# Altium schematic symbol library MCU - ARM.SchLib: 124 symbols (part 5 of 7)
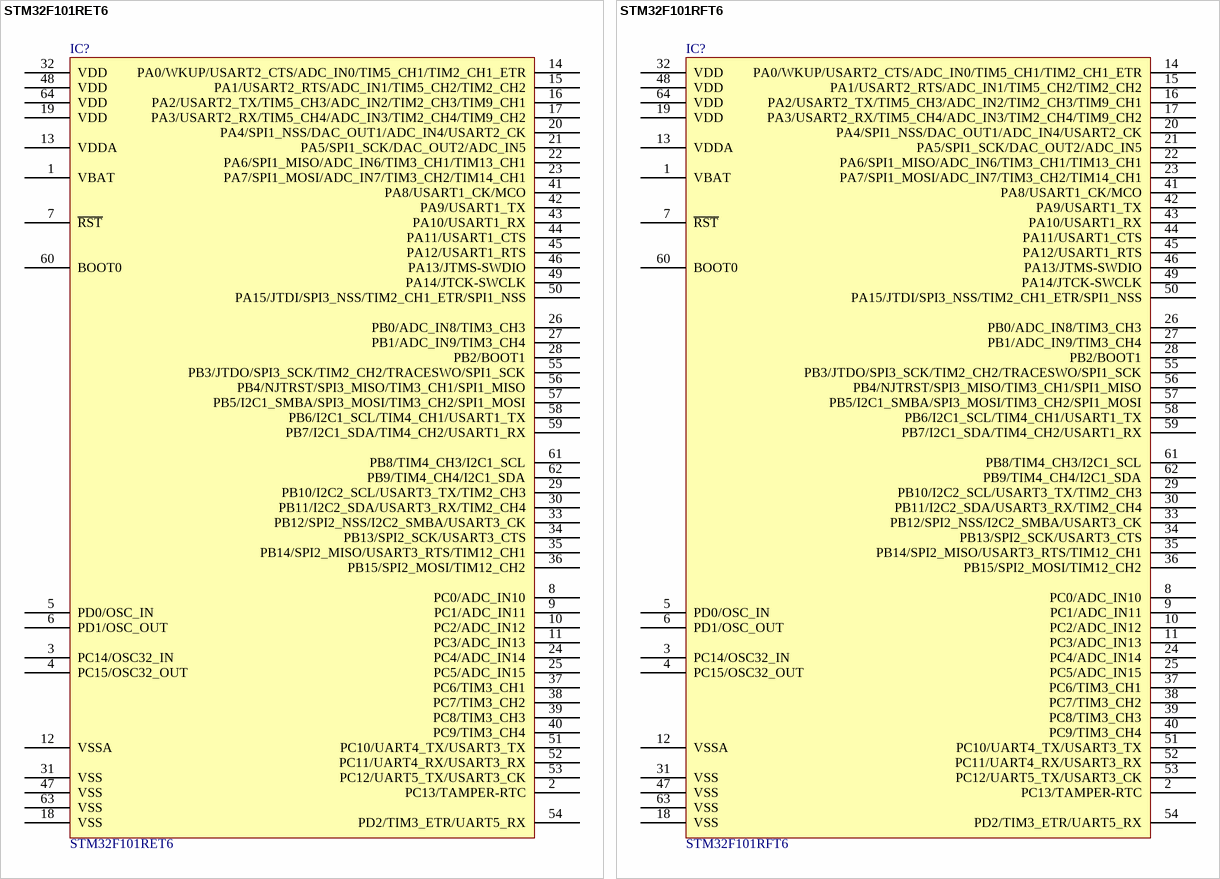
[diagram p49: symbols STM32F101RET6 to STM32F101RFT6]

## STM32F101RFT6
designator IC?
IC MCU 32BIT 768KB FLASH 64LQFP; Manufacturer: STMicroelectronics; Core Processor: ARM Cortex-M3; Core Size: 32-Bit; Speed: 36MHz; Connectivity: IC, IrDA, LIN, SPI, UART/USART; Peripherals: DMA, PDR, POR, PVD, PWM, Temp Sensor, WDT; Number Of IO: 51; Program Memory Size: 768KB (768K x 8); Ram Size: 80K x 8; Voltage: 2 V ~ 3.6 V; Data Converters: A/D 16x12b, D/A 2x12b; Oscillator Type: Internal; Part Number: STM32F101RFT6; PartId: 21174; Supplier 1: Digi-Key; Supplier Part Number 1: 497-11111-ND; ComponentLink1Description: Datasheet; ComponentLink1URL: http://www.st.com/content/ccc/resource/technical/document/datasheet/63/21/39/c6/6c/ee/48/09/CD00253739.pdf/files/CD00253739.pdf/jcr:content/translations/en.CD00253739.pdf; ComponentLink2Description: Digi-Key Listing; ComponentLink2URL: https://www.digikey.com/product-detail/en/stmicroelectronics/STM32F101RFT6/497-11111-ND/2618623; Price: 10.06; Device Package: 64-LQFP; Series: STM32 F1; Program Memory Type: FLASH
footprint ST LQFP-64 10x10mm
pins: 1 VBAT, 2 PC13/TAMPER-RTC, 3 PC14/OSC32_IN "PC14-OSC32_IN/PC14/OSC32_IN", 4 PC15/OSC32_OUT "PC15-OSC32_OUT/PC15/OSC32_OUT", 5 PD0/OSC_IN, 6 PD1/OSC_OUT, 7 ~{RST} "NRST", 8 PC0/ADC_IN10, 9 PC1/ADC_IN11, 10 PC2/ADC_IN12, 11 PC3/ADC_IN13, 12 VSSA, 13 VDDA, 14 PA0/WKUP/USART2_CTS/ADC_IN0/TIM5_CH1/TIM2_CH1_ETR, 15 PA1/USART2_RTS/ADC_IN1/TIM5_CH2/TIM2_CH2, 16 PA2/USART2_TX/TIM5_CH3/ADC_IN2/TIM2_CH3/TIM9_CH1, 17 PA3/USART2_RX/TIM5_CH4/ADC_IN3/TIM2_CH4/TIM9_CH2, 18 VSS, 19 VDD, 20 PA4/SPI1_NSS/DAC_OUT1/ADC_IN4/USART2_CK, 21 PA5/SPI1_SCK/DAC_OUT2/ADC_IN5, 22 PA6/SPI1_MISO/ADC_IN6/TIM3_CH1/TIM13_CH1, 23 PA7/SPI1_MOSI/ADC_IN7/TIM3_CH2/TIM14_CH1, 24 PC4/ADC_IN14, 25 PC5/ADC_IN15, 26 PB0/ADC_IN8/TIM3_CH3, 27 PB1/ADC_IN9/TIM3_CH4, 28 PB2/BOOT1, 29 PB10/I2C2_SCL/USART3_TX/TIM2_CH3, 30 PB11/I2C2_SDA/USART3_RX/TIM2_CH4, 31 VSS, 32 VDD, 33 PB12/SPI2_NSS/I2C2_SMBA/USART3_CK, 34 PB13/SPI2_SCK/USART3_CTS, 35 PB14/SPI2_MISO/USART3_RTS/TIM12_CH1, 36 PB15/SPI2_MOSI/TIM12_CH2, 37 PC6/TIM3_CH1, 38 PC7/TIM3_CH2, 39 PC8/TIM3_CH3, 40 PC9/TIM3_CH4, 41 PA8/USART1_CK/MCO, 42 PA9/USART1_TX, 43 PA10/USART1_RX, 44 PA11/USART1_CTS, 45 PA12/USART1_RTS, 46 PA13/JTMS-SWDIO, 47 VSS, 48 VDD, 49 PA14/JTCK-SWCLK, 50 PA15/JTDI/SPI3_NSS/TIM2_CH1_ETR/SPI1_NSS, 51 PC10/UART4_TX/USART3_TX, 52 PC11/UART4_RX/USART3_RX, 53 PC12/UART5_TX/USART3_CK, 54 PD2/TIM3_ETR/UART5_RX, 55 PB3/JTDO/SPI3_SCK/TIM2_CH2/TRACESWO/SPI1_SCK, 56 PB4/NJTRST/SPI3_MISO/TIM3_CH1/SPI1_MISO, 57 PB5/I2C1_SMBA/SPI3_MOSI/TIM3_CH2/SPI1_MOSI, 58 PB6/I2C1_SCL/TIM4_CH1/USART1_TX, 59 PB7/I2C1_SDA/TIM4_CH2/USART1_RX, 60 BOOT0, 61 PB8/TIM4_CH3/I2C1_SCL, 62 PB9/TIM4_CH4/I2C1_SDA, 63 VSS, 64 VDD

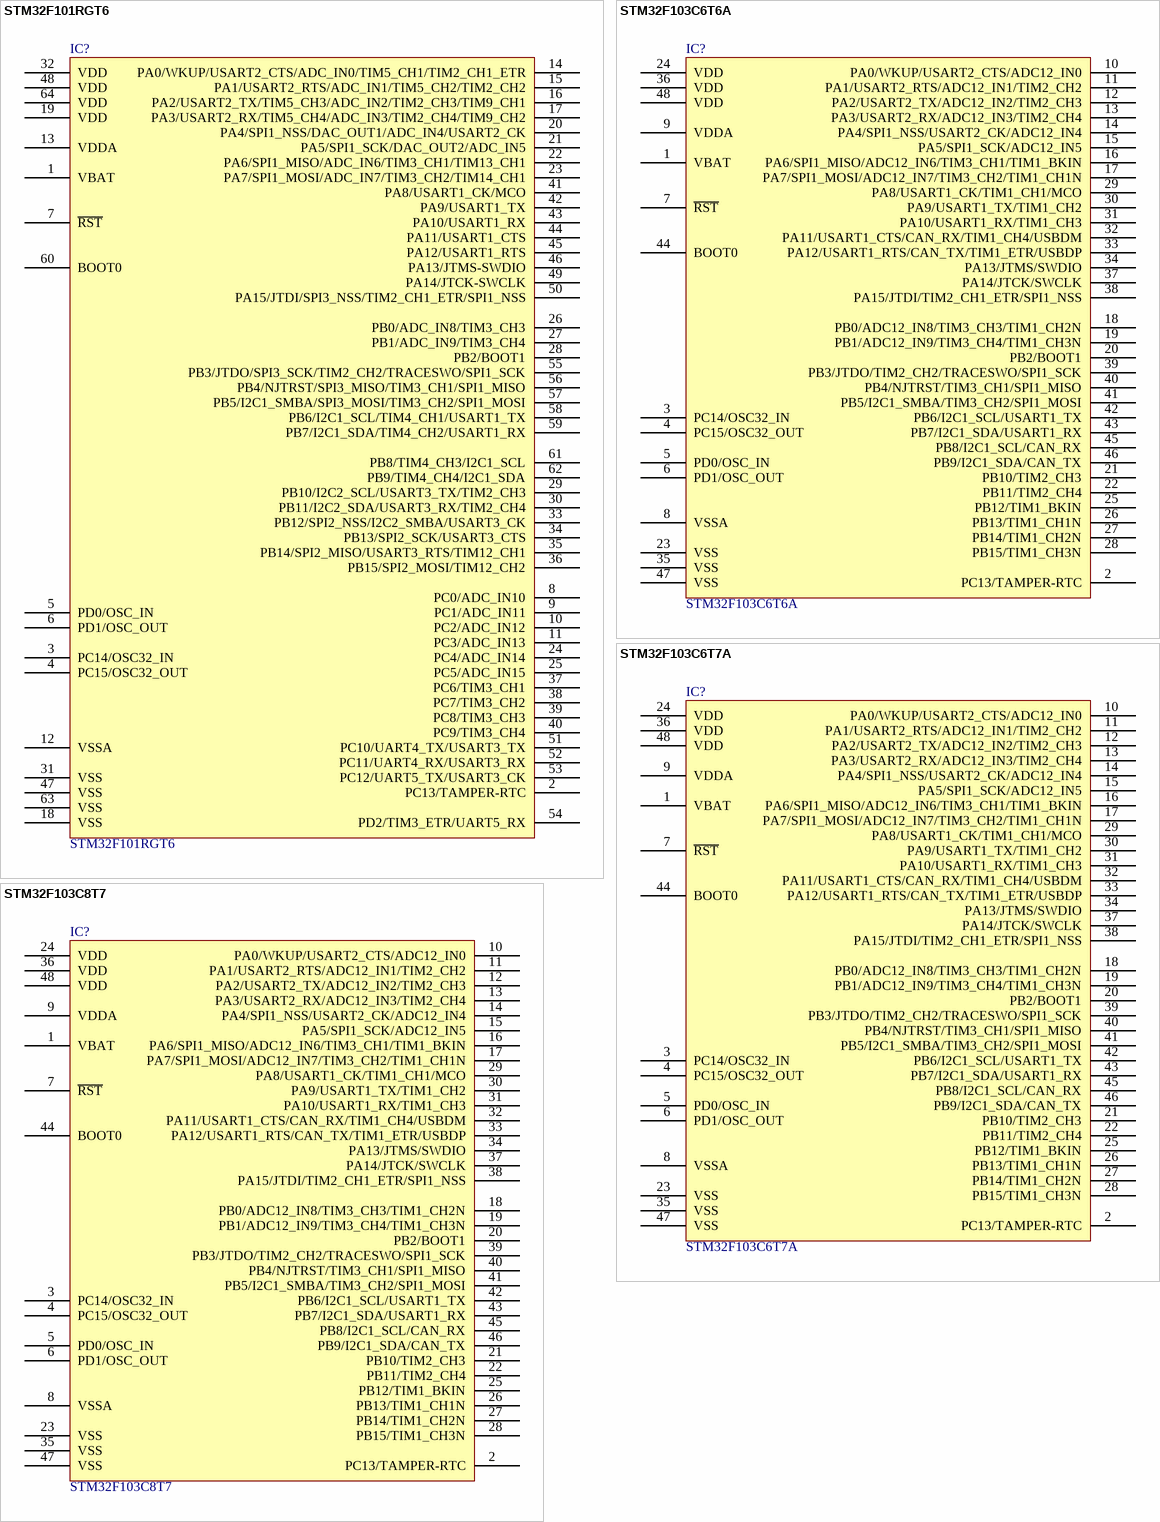
[diagram p28: symbols STM32F101RGT6 to STM32F103C8T7]

## STM32F101RGT6
designator IC?
IC MCU 32BIT 1MB FLASH 64LQFP; Manufacturer: STMicroelectronics; Core Processor: ARM Cortex-M3; Core Size: 32-Bit; Speed: 36MHz; Connectivity: IC, IrDA, LIN, SPI, UART/USART; Peripherals: DMA, PDR, POR, PVD, PWM, Temp Sensor, WDT; Number Of IO: 51; Program Memory Size: 1MB (1M x 8); Ram Size: 80K x 8; Voltage: 2 V ~ 3.6 V; Data Converters: A/D 16x12b, D/A 2x12b; Oscillator Type: Internal; Part Number: STM32F101RGT6; PartId: 21171; Supplier 1: Digi-Key; Supplier Part Number 1: 497-11112-ND; ComponentLink1Description: Datasheet; ComponentLink1URL: http://www.st.com/content/ccc/resource/technical/document/datasheet/63/21/39/c6/6c/ee/48/09/CD00253739.pdf/files/CD00253739.pdf/jcr:content/translations/en.CD00253739.pdf; ComponentLink2Description: Digi-Key Listing; ComponentLink2URL: https://www.digikey.com/product-detail/en/stmicroelectronics/STM32F101RGT6/497-11112-ND/2618624; Price: 11.77; Device Package: 64-LQFP; Series: STM32 F1; Program Memory Type: FLASH
footprint ST LQFP-64 10x10mm
pins: 1 VBAT, 2 PC13/TAMPER-RTC, 3 PC14/OSC32_IN "PC14-OSC32_IN/PC14/OSC32_IN", 4 PC15/OSC32_OUT "PC15-OSC32_OUT/PC15/OSC32_OUT", 5 PD0/OSC_IN, 6 PD1/OSC_OUT, 7 ~{RST} "NRST", 8 PC0/ADC_IN10, 9 PC1/ADC_IN11, 10 PC2/ADC_IN12, 11 PC3/ADC_IN13, 12 VSSA, 13 VDDA, 14 PA0/WKUP/USART2_CTS/ADC_IN0/TIM5_CH1/TIM2_CH1_ETR, 15 PA1/USART2_RTS/ADC_IN1/TIM5_CH2/TIM2_CH2, 16 PA2/USART2_TX/TIM5_CH3/ADC_IN2/TIM2_CH3/TIM9_CH1, 17 PA3/USART2_RX/TIM5_CH4/ADC_IN3/TIM2_CH4/TIM9_CH2, 18 VSS, 19 VDD, 20 PA4/SPI1_NSS/DAC_OUT1/ADC_IN4/USART2_CK, 21 PA5/SPI1_SCK/DAC_OUT2/ADC_IN5, 22 PA6/SPI1_MISO/ADC_IN6/TIM3_CH1/TIM13_CH1, 23 PA7/SPI1_MOSI/ADC_IN7/TIM3_CH2/TIM14_CH1, 24 PC4/ADC_IN14, 25 PC5/ADC_IN15, 26 PB0/ADC_IN8/TIM3_CH3, 27 PB1/ADC_IN9/TIM3_CH4, 28 PB2/BOOT1, 29 PB10/I2C2_SCL/USART3_TX/TIM2_CH3, 30 PB11/I2C2_SDA/USART3_RX/TIM2_CH4, 31 VSS, 32 VDD, 33 PB12/SPI2_NSS/I2C2_SMBA/USART3_CK, 34 PB13/SPI2_SCK/USART3_CTS, 35 PB14/SPI2_MISO/USART3_RTS/TIM12_CH1, 36 PB15/SPI2_MOSI/TIM12_CH2, 37 PC6/TIM3_CH1, 38 PC7/TIM3_CH2, 39 PC8/TIM3_CH3, 40 PC9/TIM3_CH4, 41 PA8/USART1_CK/MCO, 42 PA9/USART1_TX, 43 PA10/USART1_RX, 44 PA11/USART1_CTS, 45 PA12/USART1_RTS, 46 PA13/JTMS-SWDIO, 47 VSS, 48 VDD, 49 PA14/JTCK-SWCLK, 50 PA15/JTDI/SPI3_NSS/TIM2_CH1_ETR/SPI1_NSS, 51 PC10/UART4_TX/USART3_TX, 52 PC11/UART4_RX/USART3_RX, 53 PC12/UART5_TX/USART3_CK, 54 PD2/TIM3_ETR/UART5_RX, 55 PB3/JTDO/SPI3_SCK/TIM2_CH2/TRACESWO/SPI1_SCK, 56 PB4/NJTRST/SPI3_MISO/TIM3_CH1/SPI1_MISO, 57 PB5/I2C1_SMBA/SPI3_MOSI/TIM3_CH2/SPI1_MOSI, 58 PB6/I2C1_SCL/TIM4_CH1/USART1_TX, 59 PB7/I2C1_SDA/TIM4_CH2/USART1_RX, 60 BOOT0, 61 PB8/TIM4_CH3/I2C1_SCL, 62 PB9/TIM4_CH4/I2C1_SDA, 63 VSS, 64 VDD

## STM32F103C6T6A
designator IC?
IC MCU 32BIT 32KB FLASH 48LQFP; Manufacturer: STMicroelectronics; Core Processor: ARM Cortex-M3; Core Size: 32-Bit; Speed: 72MHz; Connectivity: CAN, IC, IrDA, LIN, SPI, UART/USART, USB; Peripherals: DMA, Motor Control PWM, PDR, POR, PVD, PWM, Temp Sensor, WDT; Number Of IO: 37; Program Memory Size: 32KB (32K x 8); Ram Size: 10K x 8; Voltage: 2 V ~ 3.6 V; Data Converters: A/D 10x12b; Oscillator Type: Internal; Part Number: STM32F103C6T6A; PartId: 21163; Supplier 1: Digi-Key; Supplier Part Number 1: 497-11515-ND; ComponentLink1Description: Datasheet; ComponentLink1URL: http://www.st.com/web/en/resource/technical/document/datasheet/CD00210843.pdf; ComponentLink2Description: Digi-Key Listing; ComponentLink2URL: https://www.digikey.com/product-detail/en/stmicroelectronics/STM32F103C6T6A/497-11515-ND/2035364; Price: 5.15; Device Package: 48-LQFP; Series: STM32 F1; Program Memory Type: FLASH
footprint ST LQFP-48 7x7MM
pins: 1 VBAT, 2 PC13/TAMPER-RTC, 3 PC14/OSC32_IN, 4 PC15/OSC32_OUT, 5 PD0/OSC_IN, 6 PD1/OSC_OUT, 7 ~{RST} "NRST", 8 VSSA, 9 VDDA, 10 PA0/WKUP/USART2_CTS/ADC12_IN0, 11 PA1/USART2_RTS/ADC12_IN1/TIM2_CH2, 12 PA2/USART2_TX/ADC12_IN2/TIM2_CH3, 13 PA3/USART2_RX/ADC12_IN3/TIM2_CH4, 14 PA4/SPI1_NSS/USART2_CK/ADC12_IN4, 15 PA5/SPI1_SCK/ADC12_IN5, 16 PA6/SPI1_MISO/ADC12_IN6/TIM3_CH1/TIM1_BKIN, 17 PA7/SPI1_MOSI/ADC12_IN7/TIM3_CH2/TIM1_CH1N, 18 PB0/ADC12_IN8/TIM3_CH3/TIM1_CH2N, 19 PB1/ADC12_IN9/TIM3_CH4/TIM1_CH3N, 20 PB2/BOOT1, 21 PB10/TIM2_CH3, 22 PB11/TIM2_CH4, 23 VSS, 24 VDD, 25 PB12/TIM1_BKIN, 26 PB13/TIM1_CH1N, 27 PB14/TIM1_CH2N, 28 PB15/TIM1_CH3N, 29 PA8/USART1_CK/TIM1_CH1/MCO, 30 PA9/USART1_TX/TIM1_CH2, 31 PA10/USART1_RX/TIM1_CH3, 32 PA11/USART1_CTS/CAN_RX/TIM1_CH4/USBDM, 33 PA12/USART1_RTS/CAN_TX/TIM1_ETR/USBDP, 34 PA13/JTMS/SWDIO, 35 VSS, 36 VDD, 37 PA14/JTCK/SWCLK, 38 PA15/JTDI/TIM2_CH1_ETR/SPI1_NSS, 39 PB3/JTDO/TIM2_CH2/TRACESWO/SPI1_SCK, 40 PB4/NJTRST/TIM3_CH1/SPI1_MISO, 41 PB5/I2C1_SMBA/TIM3_CH2/SPI1_MOSI, 42 PB6/I2C1_SCL/USART1_TX, 43 PB7/I2C1_SDA/USART1_RX, 44 BOOT0, 45 PB8/I2C1_SCL/CAN_RX, 46 PB9/I2C1_SDA/CAN_TX, 47 VSS, 48 VDD

## STM32F103C6T7A
designator IC?
IC MCU 32BIT 32KB FLASH 48LQFP; Manufacturer: STMicroelectronics; Core Processor: ARM Cortex-M3; Core Size: 32-Bit; Speed: 72MHz; Connectivity: CAN, IC, IrDA, LIN, SPI, UART/USART, USB; Peripherals: DMA, Motor Control PWM, PDR, POR, PVD, PWM, Temp Sensor, WDT; Number Of IO: 37; Program Memory Size: 32KB (32K x 8); Ram Size: 10K x 8; Voltage: 2 V ~ 3.6 V; Data Converters: A/D 10x12b; Oscillator Type: Internal; Part Number: STM32F103C6T7A; PartId: 21164; Supplier 1: Digi-Key; Supplier Part Number 1: 497-11516-ND; ComponentLink1Description: Datasheet; ComponentLink1URL: http://www.st.com/web/en/resource/technical/document/datasheet/CD00210843.pdf; ComponentLink2Description: Digi-Key Listing; ComponentLink2URL: https://www.digikey.com/product-detail/en/stmicroelectronics/STM32F103C6T7A/497-11516-ND/2035348; Price: 5.93; Device Package: 48-LQFP; Series: STM32 F1; Program Memory Type: FLASH
footprint ST LQFP-48 7x7MM
pins: 1 VBAT, 2 PC13/TAMPER-RTC, 3 PC14/OSC32_IN, 4 PC15/OSC32_OUT, 5 PD0/OSC_IN, 6 PD1/OSC_OUT, 7 ~{RST} "NRST", 8 VSSA, 9 VDDA, 10 PA0/WKUP/USART2_CTS/ADC12_IN0, 11 PA1/USART2_RTS/ADC12_IN1/TIM2_CH2, 12 PA2/USART2_TX/ADC12_IN2/TIM2_CH3, 13 PA3/USART2_RX/ADC12_IN3/TIM2_CH4, 14 PA4/SPI1_NSS/USART2_CK/ADC12_IN4, 15 PA5/SPI1_SCK/ADC12_IN5, 16 PA6/SPI1_MISO/ADC12_IN6/TIM3_CH1/TIM1_BKIN, 17 PA7/SPI1_MOSI/ADC12_IN7/TIM3_CH2/TIM1_CH1N, 18 PB0/ADC12_IN8/TIM3_CH3/TIM1_CH2N, 19 PB1/ADC12_IN9/TIM3_CH4/TIM1_CH3N, 20 PB2/BOOT1, 21 PB10/TIM2_CH3, 22 PB11/TIM2_CH4, 23 VSS, 24 VDD, 25 PB12/TIM1_BKIN, 26 PB13/TIM1_CH1N, 27 PB14/TIM1_CH2N, 28 PB15/TIM1_CH3N, 29 PA8/USART1_CK/TIM1_CH1/MCO, 30 PA9/USART1_TX/TIM1_CH2, 31 PA10/USART1_RX/TIM1_CH3, 32 PA11/USART1_CTS/CAN_RX/TIM1_CH4/USBDM, 33 PA12/USART1_RTS/CAN_TX/TIM1_ETR/USBDP, 34 PA13/JTMS/SWDIO, 35 VSS, 36 VDD, 37 PA14/JTCK/SWCLK, 38 PA15/JTDI/TIM2_CH1_ETR/SPI1_NSS, 39 PB3/JTDO/TIM2_CH2/TRACESWO/SPI1_SCK, 40 PB4/NJTRST/TIM3_CH1/SPI1_MISO, 41 PB5/I2C1_SMBA/TIM3_CH2/SPI1_MOSI, 42 PB6/I2C1_SCL/USART1_TX, 43 PB7/I2C1_SDA/USART1_RX, 44 BOOT0, 45 PB8/I2C1_SCL/CAN_RX, 46 PB9/I2C1_SDA/CAN_TX, 47 VSS, 48 VDD

## STM32F103C8T7
designator IC?
IC MCU 32BIT 64KB FLASH 48LQFP; Manufacturer: STMicroelectronics; Core Processor: ARM Cortex-M3; Core Size: 32-Bit; Speed: 72MHz; Connectivity: CAN, IC, IrDA, LIN, SPI, UART/USART, USB; Peripherals: DMA, Motor Control PWM, PDR, POR, PVD, PWM, Temp Sensor, WDT; Number Of IO: 37; Program Memory Size: 64KB (64K x 8); Ram Size: 20K x 8; Voltage: 2 V ~ 3.6 V; Data Converters: A/D 10x12b; Oscillator Type: Internal; Part Number: STM32F103C8T7; PartId: 21165; Supplier 1: Digi-Key; Supplier Part Number 1: 497-11517-ND; ComponentLink1Description: Datasheet; ComponentLink1URL: //media.digikey.com/pdf/Data%20Sheets/ST%20Microelectronics%20PDFS/STM32F103x8,B.pdf; ComponentLink2Description: Digi-Key Listing; ComponentLink2URL: https://www.digikey.com/product-detail/en/stmicroelectronics/STM32F103C8T7/497-11517-ND/2214603; Price: 6.25; Device Package: 48-LQFP; Series: STM32 F1; Program Memory Type: FLASH
footprint ST LQFP-48 7x7MM
pins: 1 VBAT, 2 PC13/TAMPER-RTC, 3 PC14/OSC32_IN, 4 PC15/OSC32_OUT, 5 PD0/OSC_IN, 6 PD1/OSC_OUT, 7 ~{RST} "NRST", 8 VSSA, 9 VDDA, 10 PA0/WKUP/USART2_CTS/ADC12_IN0, 11 PA1/USART2_RTS/ADC12_IN1/TIM2_CH2, 12 PA2/USART2_TX/ADC12_IN2/TIM2_CH3, 13 PA3/USART2_RX/ADC12_IN3/TIM2_CH4, 14 PA4/SPI1_NSS/USART2_CK/ADC12_IN4, 15 PA5/SPI1_SCK/ADC12_IN5, 16 PA6/SPI1_MISO/ADC12_IN6/TIM3_CH1/TIM1_BKIN, 17 PA7/SPI1_MOSI/ADC12_IN7/TIM3_CH2/TIM1_CH1N, 18 PB0/ADC12_IN8/TIM3_CH3/TIM1_CH2N, 19 PB1/ADC12_IN9/TIM3_CH4/TIM1_CH3N, 20 PB2/BOOT1, 21 PB10/TIM2_CH3, 22 PB11/TIM2_CH4, 23 VSS, 24 VDD, 25 PB12/TIM1_BKIN, 26 PB13/TIM1_CH1N, 27 PB14/TIM1_CH2N, 28 PB15/TIM1_CH3N, 29 PA8/USART1_CK/TIM1_CH1/MCO, 30 PA9/USART1_TX/TIM1_CH2, 31 PA10/USART1_RX/TIM1_CH3, 32 PA11/USART1_CTS/CAN_RX/TIM1_CH4/USBDM, 33 PA12/USART1_RTS/CAN_TX/TIM1_ETR/USBDP, 34 PA13/JTMS/SWDIO, 35 VSS, 36 VDD, 37 PA14/JTCK/SWCLK, 38 PA15/JTDI/TIM2_CH1_ETR/SPI1_NSS, 39 PB3/JTDO/TIM2_CH2/TRACESWO/SPI1_SCK, 40 PB4/NJTRST/TIM3_CH1/SPI1_MISO, 41 PB5/I2C1_SMBA/TIM3_CH2/SPI1_MOSI, 42 PB6/I2C1_SCL/USART1_TX, 43 PB7/I2C1_SDA/USART1_RX, 44 BOOT0, 45 PB8/I2C1_SCL/CAN_RX, 46 PB9/I2C1_SDA/CAN_TX, 47 VSS, 48 VDD

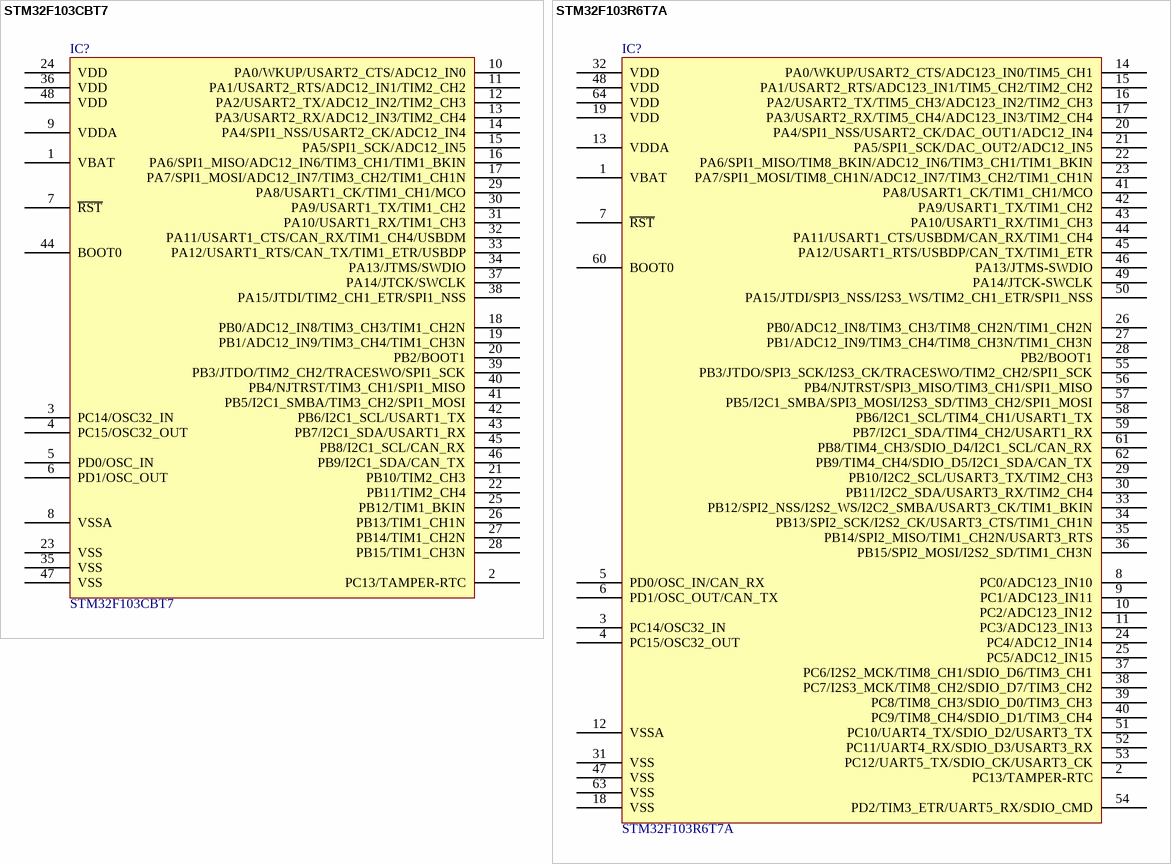
[diagram p29: symbols STM32F103CBT7 to STM32F103R6T7A]

## STM32F103CBT7
designator IC?
IC MCU 32BIT 128KB FLASH 48LQFP; Manufacturer: STMicroelectronics; Core Processor: ARM Cortex-M3; Core Size: 32-Bit; Speed: 72MHz; Connectivity: CAN, IC, IrDA, LIN, SPI, UART/USART, USB; Peripherals: DMA, Motor Control PWM, PDR, POR, PVD, PWM, Temp Sensor, WDT; Number Of IO: 37; Program Memory Size: 128KB (128K x 8); Ram Size: 20K x 8; Voltage: 2 V ~ 3.6 V; Data Converters: A/D 10x12b; Oscillator Type: Internal; Part Number: STM32F103CBT7; PartId: 21162; Supplier 1: Digi-Key; Supplier Part Number 1: 497-11518-ND; ComponentLink1Description: Datasheet; ComponentLink1URL: //media.digikey.com/pdf/Data%20Sheets/ST%20Microelectronics%20PDFS/STM32F103x8,B.pdf; ComponentLink2Description: Digi-Key Listing; ComponentLink2URL: https://www.digikey.com/product-detail/en/stmicroelectronics/STM32F103CBT7/497-11518-ND/2035373; Price: 7.39; Device Package: 48-LQFP; Series: STM32 F1; Program Memory Type: FLASH
footprint ST LQFP-48 7x7MM
pins: 1 VBAT, 2 PC13/TAMPER-RTC, 3 PC14/OSC32_IN, 4 PC15/OSC32_OUT, 5 PD0/OSC_IN, 6 PD1/OSC_OUT, 7 ~{RST} "NRST", 8 VSSA, 9 VDDA, 10 PA0/WKUP/USART2_CTS/ADC12_IN0, 11 PA1/USART2_RTS/ADC12_IN1/TIM2_CH2, 12 PA2/USART2_TX/ADC12_IN2/TIM2_CH3, 13 PA3/USART2_RX/ADC12_IN3/TIM2_CH4, 14 PA4/SPI1_NSS/USART2_CK/ADC12_IN4, 15 PA5/SPI1_SCK/ADC12_IN5, 16 PA6/SPI1_MISO/ADC12_IN6/TIM3_CH1/TIM1_BKIN, 17 PA7/SPI1_MOSI/ADC12_IN7/TIM3_CH2/TIM1_CH1N, 18 PB0/ADC12_IN8/TIM3_CH3/TIM1_CH2N, 19 PB1/ADC12_IN9/TIM3_CH4/TIM1_CH3N, 20 PB2/BOOT1, 21 PB10/TIM2_CH3, 22 PB11/TIM2_CH4, 23 VSS, 24 VDD, 25 PB12/TIM1_BKIN, 26 PB13/TIM1_CH1N, 27 PB14/TIM1_CH2N, 28 PB15/TIM1_CH3N, 29 PA8/USART1_CK/TIM1_CH1/MCO, 30 PA9/USART1_TX/TIM1_CH2, 31 PA10/USART1_RX/TIM1_CH3, 32 PA11/USART1_CTS/CAN_RX/TIM1_CH4/USBDM, 33 PA12/USART1_RTS/CAN_TX/TIM1_ETR/USBDP, 34 PA13/JTMS/SWDIO, 35 VSS, 36 VDD, 37 PA14/JTCK/SWCLK, 38 PA15/JTDI/TIM2_CH1_ETR/SPI1_NSS, 39 PB3/JTDO/TIM2_CH2/TRACESWO/SPI1_SCK, 40 PB4/NJTRST/TIM3_CH1/SPI1_MISO, 41 PB5/I2C1_SMBA/TIM3_CH2/SPI1_MOSI, 42 PB6/I2C1_SCL/USART1_TX, 43 PB7/I2C1_SDA/USART1_RX, 44 BOOT0, 45 PB8/I2C1_SCL/CAN_RX, 46 PB9/I2C1_SDA/CAN_TX, 47 VSS, 48 VDD

## STM32F103R6T7A
designator IC?
IC MCU 32BIT 32KB FLASH 64LQFP; Manufacturer: STMicroelectronics; Core Processor: ARM Cortex-M3; Core Size: 32-Bit; Speed: 72MHz; Connectivity: CAN, IC, IrDA, LIN, SPI, UART/USART, USB; Peripherals: DMA, Motor Control PWM, PDR, POR, PVD, PWM, Temp Sensor, WDT; Number Of IO: 51; Program Memory Size: 32KB (32K x 8); Ram Size: 10K x 8; Voltage: 2 V ~ 3.6 V; Data Converters: A/D 16x12b; Oscillator Type: Internal; Part Number: STM32F103R6T7A; PartId: 21161; Supplier 1: Digi-Key; Supplier Part Number 1: 497-11522-ND; ComponentLink1Description: Datasheet; ComponentLink1URL: http://www.st.com/web/en/resource/technical/document/datasheet/CD00210843.pdf; ComponentLink2Description: Digi-Key Listing; ComponentLink2URL: https://www.digikey.com/product-detail/en/stmicroelectronics/STM32F103R6T7A/497-11522-ND/2035343; Price: 6.26; Device Package: 64-LQFP; Series: STM32 F1; Program Memory Type: FLASH
footprint ST LQFP-64 10x10mm
pins: 1 VBAT, 2 PC13/TAMPER-RTC, 3 PC14/OSC32_IN, 4 PC15/OSC32_OUT, 5 PD0/OSC_IN/CAN_RX, 6 PD1/OSC_OUT/CAN_TX, 7 ~{RST} "NRST", 8 PC0/ADC123_IN10, 9 PC1/ADC123_IN11, 10 PC2/ADC123_IN12, 11 PC3/ADC123_IN13, 12 VSSA, 13 VDDA, 14 PA0/WKUP/USART2_CTS/ADC123_IN0/TIM5_CH1, 15 PA1/USART2_RTS/ADC123_IN1/TIM5_CH2/TIM2_CH2, 16 PA2/USART2_TX/TIM5_CH3/ADC123_IN2/TIM2_CH3, 17 PA3/USART2_RX/TIM5_CH4/ADC123_IN3/TIM2_CH4, 18 VSS, 19 VDD, 20 PA4/SPI1_NSS/USART2_CK/DAC_OUT1/ADC12_IN4, 21 PA5/SPI1_SCK/DAC_OUT2/ADC12_IN5, 22 PA6/SPI1_MISO/TIM8_BKIN/ADC12_IN6/TIM3_CH1/TIM1_BKIN, 23 PA7/SPI1_MOSI/TIM8_CH1N/ADC12_IN7/TIM3_CH2/TIM1_CH1N, 24 PC4/ADC12_IN14, 25 PC5/ADC12_IN15, 26 PB0/ADC12_IN8/TIM3_CH3/TIM8_CH2N/TIM1_CH2N, 27 PB1/ADC12_IN9/TIM3_CH4/TIM8_CH3N/TIM1_CH3N, 28 PB2/BOOT1, 29 PB10/I2C2_SCL/USART3_TX/TIM2_CH3, 30 PB11/I2C2_SDA/USART3_RX/TIM2_CH4, 31 VSS, 32 VDD, 33 PB12/SPI2_NSS/I2S2_WS/I2C2_SMBA/USART3_CK/TIM1_BKIN, 34 PB13/SPI2_SCK/I2S2_CK/USART3_CTS/TIM1_CH1N, 35 PB14/SPI2_MISO/TIM1_CH2N/USART3_RTS, 36 PB15/SPI2_MOSI/I2S2_SD/TIM1_CH3N, 37 PC6/I2S2_MCK/TIM8_CH1/SDIO_D6/TIM3_CH1, 38 PC7/I2S3_MCK/TIM8_CH2/SDIO_D7/TIM3_CH2, 39 PC8/TIM8_CH3/SDIO_D0/TIM3_CH3, 40 PC9/TIM8_CH4/SDIO_D1/TIM3_CH4, 41 PA8/USART1_CK/TIM1_CH1/MCO, 42 PA9/USART1_TX/TIM1_CH2, 43 PA10/USART1_RX/TIM1_CH3, 44 PA11/USART1_CTS/USBDM/CAN_RX/TIM1_CH4, 45 PA12/USART1_RTS/USBDP/CAN_TX/TIM1_ETR, 46 PA13/JTMS-SWDIO, 47 VSS, 48 VDD, 49 PA14/JTCK-SWCLK, 50 PA15/JTDI/SPI3_NSS/I2S3_WS/TIM2_CH1_ETR/SPI1_NSS, 51 PC10/UART4_TX/SDIO_D2/USART3_TX, 52 PC11/UART4_RX/SDIO_D3/USART3_RX, 53 PC12/UART5_TX/SDIO_CK/USART3_CK, 54 PD2/TIM3_ETR/UART5_RX/SDIO_CMD, 55 PB3/JTDO/SPI3_SCK/I2S3_CK/TRACESWO/TIM2_CH2/SPI1_SCK, 56 PB4/NJTRST/SPI3_MISO/TIM3_CH1/SPI1_MISO, 57 PB5/I2C1_SMBA/SPI3_MOSI/I2S3_SD/TIM3_CH2/SPI1_MOSI, 58 PB6/I2C1_SCL/TIM4_CH1/USART1_TX, 59 PB7/I2C1_SDA/TIM4_CH2/USART1_RX, 60 BOOT0, 61 PB8/TIM4_CH3/SDIO_D4/I2C1_SCL/CAN_RX, 62 PB9/TIM4_CH4/SDIO_D5/I2C1_SDA/CAN_TX, 63 VSS, 64 VDD

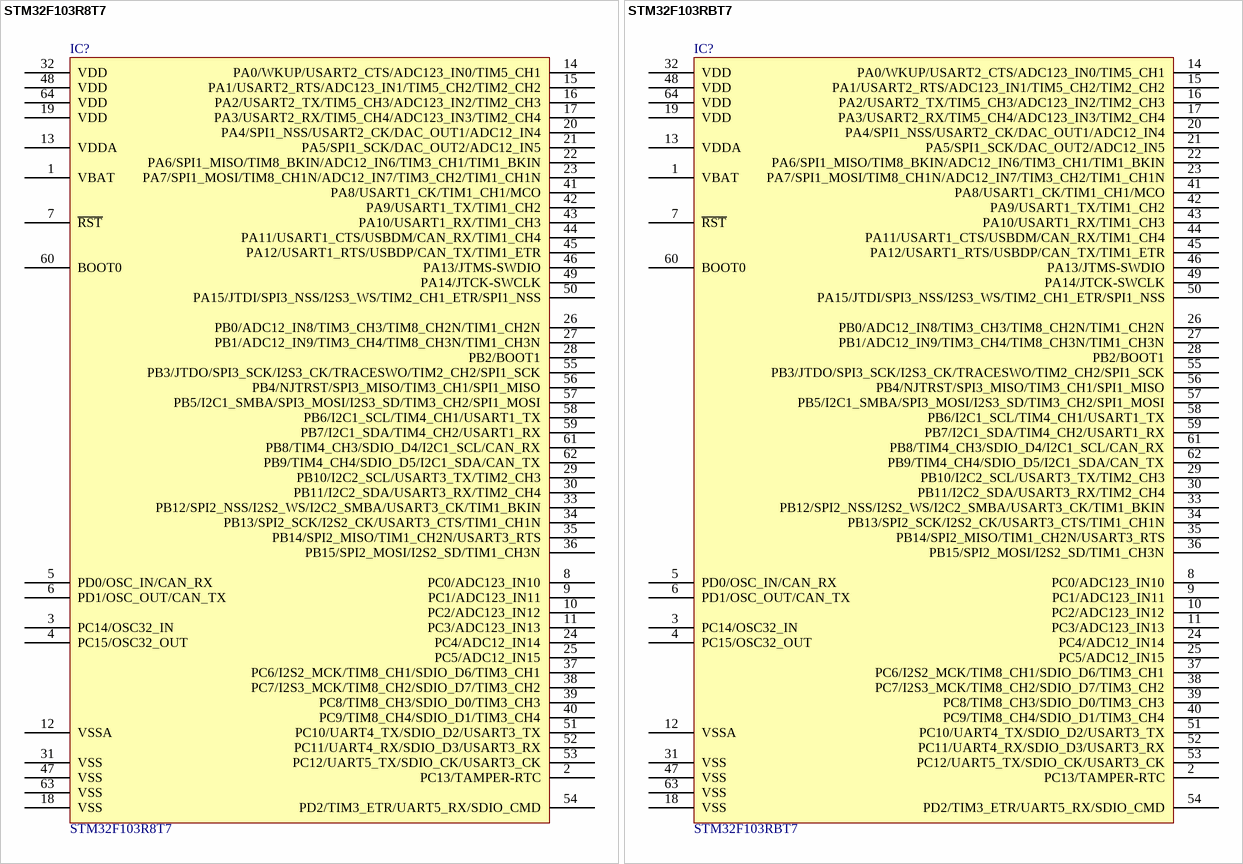
[diagram p30: symbols STM32F103R8T7 to STM32F103RBT7]

## STM32F103R8T7
designator IC?
IC MCU 32BIT 64KB FLASH 64LQFP; Manufacturer: STMicroelectronics; Core Processor: ARM Cortex-M3; Core Size: 32-Bit; Speed: 72MHz; Connectivity: CAN, IC, IrDA, LIN, SPI, UART/USART, USB; Peripherals: DMA, Motor Control PWM, PDR, POR, PVD, PWM, Temp Sensor, WDT; Number Of IO: 51; Program Memory Size: 64KB (64K x 8); Ram Size: 20K x 8; Voltage: 2 V ~ 3.6 V; Data Converters: A/D 16x12b; Oscillator Type: Internal; Part Number: STM32F103R8T7; PartId: 21157; Supplier 1: Digi-Key; Supplier Part Number 1: 497-11524-ND; ComponentLink1Description: Datasheet; ComponentLink1URL: //media.digikey.com/pdf/Data%20Sheets/ST%20Microelectronics%20PDFS/STM32F103x8,B.pdf; ComponentLink2Description: Digi-Key Listing; ComponentLink2URL: https://www.digikey.com/product-detail/en/stmicroelectronics/STM32F103R8T7/497-11524-ND/2035340; Price: 6.72; Device Package: 64-LQFP; Series: STM32 F1; Program Memory Type: FLASH
footprint ST LQFP-64 10x10mm
pins: 1 VBAT, 2 PC13/TAMPER-RTC, 3 PC14/OSC32_IN, 4 PC15/OSC32_OUT, 5 PD0/OSC_IN/CAN_RX, 6 PD1/OSC_OUT/CAN_TX, 7 ~{RST} "NRST", 8 PC0/ADC123_IN10, 9 PC1/ADC123_IN11, 10 PC2/ADC123_IN12, 11 PC3/ADC123_IN13, 12 VSSA, 13 VDDA, 14 PA0/WKUP/USART2_CTS/ADC123_IN0/TIM5_CH1, 15 PA1/USART2_RTS/ADC123_IN1/TIM5_CH2/TIM2_CH2, 16 PA2/USART2_TX/TIM5_CH3/ADC123_IN2/TIM2_CH3, 17 PA3/USART2_RX/TIM5_CH4/ADC123_IN3/TIM2_CH4, 18 VSS, 19 VDD, 20 PA4/SPI1_NSS/USART2_CK/DAC_OUT1/ADC12_IN4, 21 PA5/SPI1_SCK/DAC_OUT2/ADC12_IN5, 22 PA6/SPI1_MISO/TIM8_BKIN/ADC12_IN6/TIM3_CH1/TIM1_BKIN, 23 PA7/SPI1_MOSI/TIM8_CH1N/ADC12_IN7/TIM3_CH2/TIM1_CH1N, 24 PC4/ADC12_IN14, 25 PC5/ADC12_IN15, 26 PB0/ADC12_IN8/TIM3_CH3/TIM8_CH2N/TIM1_CH2N, 27 PB1/ADC12_IN9/TIM3_CH4/TIM8_CH3N/TIM1_CH3N, 28 PB2/BOOT1, 29 PB10/I2C2_SCL/USART3_TX/TIM2_CH3, 30 PB11/I2C2_SDA/USART3_RX/TIM2_CH4, 31 VSS, 32 VDD, 33 PB12/SPI2_NSS/I2S2_WS/I2C2_SMBA/USART3_CK/TIM1_BKIN, 34 PB13/SPI2_SCK/I2S2_CK/USART3_CTS/TIM1_CH1N, 35 PB14/SPI2_MISO/TIM1_CH2N/USART3_RTS, 36 PB15/SPI2_MOSI/I2S2_SD/TIM1_CH3N, 37 PC6/I2S2_MCK/TIM8_CH1/SDIO_D6/TIM3_CH1, 38 PC7/I2S3_MCK/TIM8_CH2/SDIO_D7/TIM3_CH2, 39 PC8/TIM8_CH3/SDIO_D0/TIM3_CH3, 40 PC9/TIM8_CH4/SDIO_D1/TIM3_CH4, 41 PA8/USART1_CK/TIM1_CH1/MCO, 42 PA9/USART1_TX/TIM1_CH2, 43 PA10/USART1_RX/TIM1_CH3, 44 PA11/USART1_CTS/USBDM/CAN_RX/TIM1_CH4, 45 PA12/USART1_RTS/USBDP/CAN_TX/TIM1_ETR, 46 PA13/JTMS-SWDIO, 47 VSS, 48 VDD, 49 PA14/JTCK-SWCLK, 50 PA15/JTDI/SPI3_NSS/I2S3_WS/TIM2_CH1_ETR/SPI1_NSS, 51 PC10/UART4_TX/SDIO_D2/USART3_TX, 52 PC11/UART4_RX/SDIO_D3/USART3_RX, 53 PC12/UART5_TX/SDIO_CK/USART3_CK, 54 PD2/TIM3_ETR/UART5_RX/SDIO_CMD, 55 PB3/JTDO/SPI3_SCK/I2S3_CK/TRACESWO/TIM2_CH2/SPI1_SCK, 56 PB4/NJTRST/SPI3_MISO/TIM3_CH1/SPI1_MISO, 57 PB5/I2C1_SMBA/SPI3_MOSI/I2S3_SD/TIM3_CH2/SPI1_MOSI, 58 PB6/I2C1_SCL/TIM4_CH1/USART1_TX, 59 PB7/I2C1_SDA/TIM4_CH2/USART1_RX, 60 BOOT0, 61 PB8/TIM4_CH3/SDIO_D4/I2C1_SCL/CAN_RX, 62 PB9/TIM4_CH4/SDIO_D5/I2C1_SDA/CAN_TX, 63 VSS, 64 VDD

## STM32F103RBT7
designator IC?
IC MCU 32BIT 128KB FLASH 64LQFP; Manufacturer: STMicroelectronics; Core Processor: ARM Cortex-M3; Core Size: 32-Bit; Speed: 72MHz; Connectivity: CAN, IC, IrDA, LIN, SPI, UART/USART, USB; Peripherals: DMA, Motor Control PWM, PDR, POR, PVD, PWM, Temp Sensor, WDT; Number Of IO: 51; Program Memory Size: 128KB (128K x 8); Ram Size: 20K x 8; Voltage: 2 V ~ 3.6 V; Data Converters: A/D 16x12b; Oscillator Type: Internal; Part Number: STM32F103RBT7; PartId: 21160; Supplier 1: Digi-Key; Supplier Part Number 1: 497-11526-ND; ComponentLink1Description: Datasheet; ComponentLink1URL: //media.digikey.com/pdf/Data%20Sheets/ST%20Microelectronics%20PDFS/STM32F103x8,B.pdf; ComponentLink2Description: Digi-Key Listing; ComponentLink2URL: https://www.digikey.com/product-detail/en/stmicroelectronics/STM32F103RBT7/497-11526-ND/2035337; Price: 8.63; Device Package: 64-LQFP; Series: STM32 F1; Program Memory Type: FLASH
footprint ST LQFP-64 10x10mm
pins: 1 VBAT, 2 PC13/TAMPER-RTC, 3 PC14/OSC32_IN, 4 PC15/OSC32_OUT, 5 PD0/OSC_IN/CAN_RX, 6 PD1/OSC_OUT/CAN_TX, 7 ~{RST} "NRST", 8 PC0/ADC123_IN10, 9 PC1/ADC123_IN11, 10 PC2/ADC123_IN12, 11 PC3/ADC123_IN13, 12 VSSA, 13 VDDA, 14 PA0/WKUP/USART2_CTS/ADC123_IN0/TIM5_CH1, 15 PA1/USART2_RTS/ADC123_IN1/TIM5_CH2/TIM2_CH2, 16 PA2/USART2_TX/TIM5_CH3/ADC123_IN2/TIM2_CH3, 17 PA3/USART2_RX/TIM5_CH4/ADC123_IN3/TIM2_CH4, 18 VSS, 19 VDD, 20 PA4/SPI1_NSS/USART2_CK/DAC_OUT1/ADC12_IN4, 21 PA5/SPI1_SCK/DAC_OUT2/ADC12_IN5, 22 PA6/SPI1_MISO/TIM8_BKIN/ADC12_IN6/TIM3_CH1/TIM1_BKIN, 23 PA7/SPI1_MOSI/TIM8_CH1N/ADC12_IN7/TIM3_CH2/TIM1_CH1N, 24 PC4/ADC12_IN14, 25 PC5/ADC12_IN15, 26 PB0/ADC12_IN8/TIM3_CH3/TIM8_CH2N/TIM1_CH2N, 27 PB1/ADC12_IN9/TIM3_CH4/TIM8_CH3N/TIM1_CH3N, 28 PB2/BOOT1, 29 PB10/I2C2_SCL/USART3_TX/TIM2_CH3, 30 PB11/I2C2_SDA/USART3_RX/TIM2_CH4, 31 VSS, 32 VDD, 33 PB12/SPI2_NSS/I2S2_WS/I2C2_SMBA/USART3_CK/TIM1_BKIN, 34 PB13/SPI2_SCK/I2S2_CK/USART3_CTS/TIM1_CH1N, 35 PB14/SPI2_MISO/TIM1_CH2N/USART3_RTS, 36 PB15/SPI2_MOSI/I2S2_SD/TIM1_CH3N, 37 PC6/I2S2_MCK/TIM8_CH1/SDIO_D6/TIM3_CH1, 38 PC7/I2S3_MCK/TIM8_CH2/SDIO_D7/TIM3_CH2, 39 PC8/TIM8_CH3/SDIO_D0/TIM3_CH3, 40 PC9/TIM8_CH4/SDIO_D1/TIM3_CH4, 41 PA8/USART1_CK/TIM1_CH1/MCO, 42 PA9/USART1_TX/TIM1_CH2, 43 PA10/USART1_RX/TIM1_CH3, 44 PA11/USART1_CTS/USBDM/CAN_RX/TIM1_CH4, 45 PA12/USART1_RTS/USBDP/CAN_TX/TIM1_ETR, 46 PA13/JTMS-SWDIO, 47 VSS, 48 VDD, 49 PA14/JTCK-SWCLK, 50 PA15/JTDI/SPI3_NSS/I2S3_WS/TIM2_CH1_ETR/SPI1_NSS, 51 PC10/UART4_TX/SDIO_D2/USART3_TX, 52 PC11/UART4_RX/SDIO_D3/USART3_RX, 53 PC12/UART5_TX/SDIO_CK/USART3_CK, 54 PD2/TIM3_ETR/UART5_RX/SDIO_CMD, 55 PB3/JTDO/SPI3_SCK/I2S3_CK/TRACESWO/TIM2_CH2/SPI1_SCK, 56 PB4/NJTRST/SPI3_MISO/TIM3_CH1/SPI1_MISO, 57 PB5/I2C1_SMBA/SPI3_MOSI/I2S3_SD/TIM3_CH2/SPI1_MOSI, 58 PB6/I2C1_SCL/TIM4_CH1/USART1_TX, 59 PB7/I2C1_SDA/TIM4_CH2/USART1_RX, 60 BOOT0, 61 PB8/TIM4_CH3/SDIO_D4/I2C1_SCL/CAN_RX, 62 PB9/TIM4_CH4/SDIO_D5/I2C1_SDA/CAN_TX, 63 VSS, 64 VDD

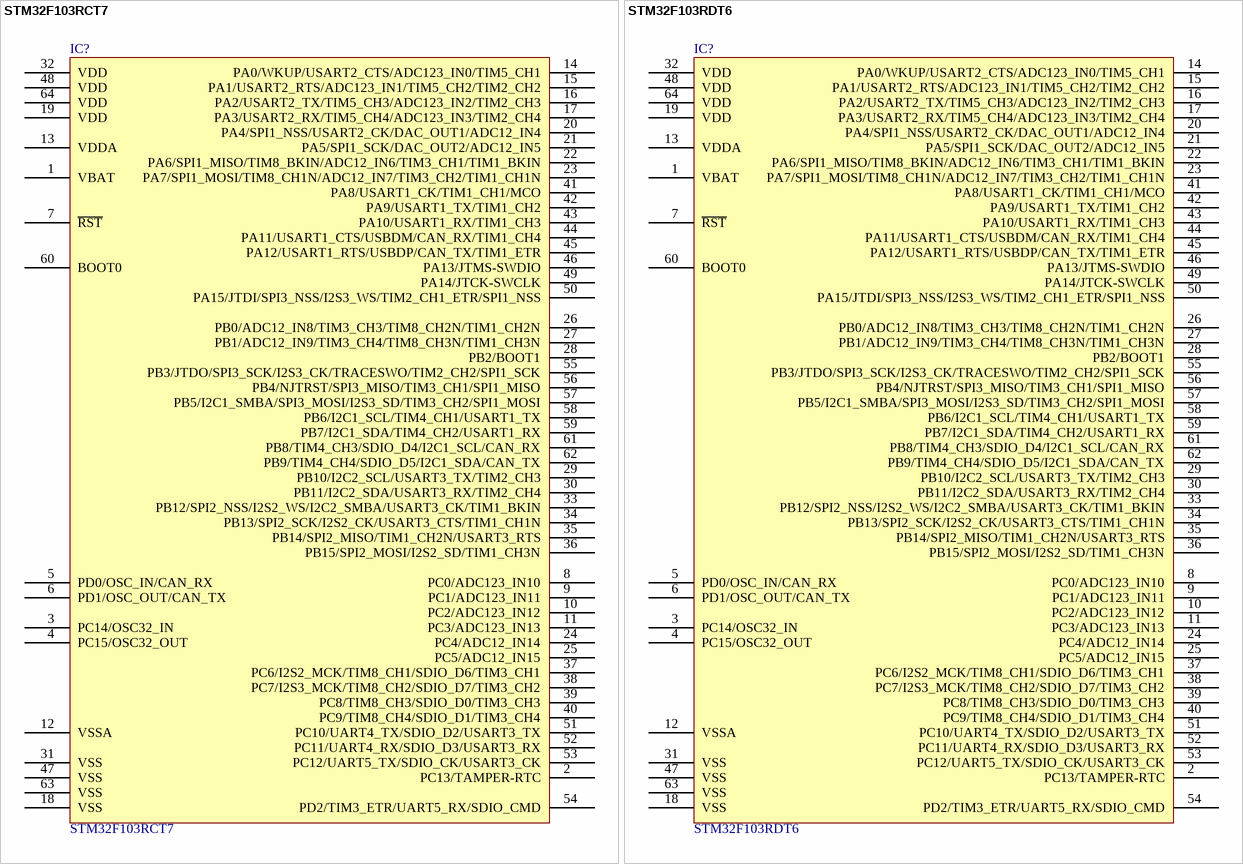
[diagram p31: symbols STM32F103RCT7 to STM32F103RDT6]

## STM32F103RCT7
designator IC?
IC MCU 32BIT 256KB FLASH 64LQFP; Manufacturer: STMicroelectronics; Core Processor: ARM Cortex-M3; Core Size: 32-Bit; Speed: 72MHz; Connectivity: CAN, IC, IrDA, LIN, SPI, UART/USART, USB; Peripherals: DMA, Motor Control PWM, PDR, POR, PVD, PWM, Temp Sensor, WDT; Number Of IO: 51; Program Memory Size: 256KB (256K x 8); Ram Size: 48K x 8; Voltage: 2 V ~ 3.6 V; Data Converters: A/D 16x12b; D/A 2x12b; Oscillator Type: Internal; Part Number: STM32F103RCT7; PartId: 21158; Supplier 1: Digi-Key; Supplier Part Number 1: 497-11527-ND; ComponentLink1Description: Datasheet; ComponentLink1URL: http://www.st.com/content/ccc/resource/technical/document/datasheet/59/f6/fa/84/20/4e/4c/59/CD00191185.pdf/files/CD00191185.pdf/jcr:content/translations/en.CD00191185.pdf; ComponentLink2Description: Digi-Key Listing; ComponentLink2URL: https://www.digikey.com/product-detail/en/stmicroelectronics/STM32F103RCT7/497-11527-ND/2035378; Price: 8.97; Device Package: 64-LQFP; Series: STM32 F1; Program Memory Type: FLASH
footprint ST LQFP-64 10x10mm
pins: 1 VBAT, 2 PC13/TAMPER-RTC, 3 PC14/OSC32_IN, 4 PC15/OSC32_OUT, 5 PD0/OSC_IN/CAN_RX, 6 PD1/OSC_OUT/CAN_TX, 7 ~{RST} "NRST", 8 PC0/ADC123_IN10, 9 PC1/ADC123_IN11, 10 PC2/ADC123_IN12, 11 PC3/ADC123_IN13, 12 VSSA, 13 VDDA, 14 PA0/WKUP/USART2_CTS/ADC123_IN0/TIM5_CH1, 15 PA1/USART2_RTS/ADC123_IN1/TIM5_CH2/TIM2_CH2, 16 PA2/USART2_TX/TIM5_CH3/ADC123_IN2/TIM2_CH3, 17 PA3/USART2_RX/TIM5_CH4/ADC123_IN3/TIM2_CH4, 18 VSS, 19 VDD, 20 PA4/SPI1_NSS/USART2_CK/DAC_OUT1/ADC12_IN4, 21 PA5/SPI1_SCK/DAC_OUT2/ADC12_IN5, 22 PA6/SPI1_MISO/TIM8_BKIN/ADC12_IN6/TIM3_CH1/TIM1_BKIN, 23 PA7/SPI1_MOSI/TIM8_CH1N/ADC12_IN7/TIM3_CH2/TIM1_CH1N, 24 PC4/ADC12_IN14, 25 PC5/ADC12_IN15, 26 PB0/ADC12_IN8/TIM3_CH3/TIM8_CH2N/TIM1_CH2N, 27 PB1/ADC12_IN9/TIM3_CH4/TIM8_CH3N/TIM1_CH3N, 28 PB2/BOOT1, 29 PB10/I2C2_SCL/USART3_TX/TIM2_CH3, 30 PB11/I2C2_SDA/USART3_RX/TIM2_CH4, 31 VSS, 32 VDD, 33 PB12/SPI2_NSS/I2S2_WS/I2C2_SMBA/USART3_CK/TIM1_BKIN, 34 PB13/SPI2_SCK/I2S2_CK/USART3_CTS/TIM1_CH1N, 35 PB14/SPI2_MISO/TIM1_CH2N/USART3_RTS, 36 PB15/SPI2_MOSI/I2S2_SD/TIM1_CH3N, 37 PC6/I2S2_MCK/TIM8_CH1/SDIO_D6/TIM3_CH1, 38 PC7/I2S3_MCK/TIM8_CH2/SDIO_D7/TIM3_CH2, 39 PC8/TIM8_CH3/SDIO_D0/TIM3_CH3, 40 PC9/TIM8_CH4/SDIO_D1/TIM3_CH4, 41 PA8/USART1_CK/TIM1_CH1/MCO, 42 PA9/USART1_TX/TIM1_CH2, 43 PA10/USART1_RX/TIM1_CH3, 44 PA11/USART1_CTS/USBDM/CAN_RX/TIM1_CH4, 45 PA12/USART1_RTS/USBDP/CAN_TX/TIM1_ETR, 46 PA13/JTMS-SWDIO, 47 VSS, 48 VDD, 49 PA14/JTCK-SWCLK, 50 PA15/JTDI/SPI3_NSS/I2S3_WS/TIM2_CH1_ETR/SPI1_NSS, 51 PC10/UART4_TX/SDIO_D2/USART3_TX, 52 PC11/UART4_RX/SDIO_D3/USART3_RX, 53 PC12/UART5_TX/SDIO_CK/USART3_CK, 54 PD2/TIM3_ETR/UART5_RX/SDIO_CMD, 55 PB3/JTDO/SPI3_SCK/I2S3_CK/TRACESWO/TIM2_CH2/SPI1_SCK, 56 PB4/NJTRST/SPI3_MISO/TIM3_CH1/SPI1_MISO, 57 PB5/I2C1_SMBA/SPI3_MOSI/I2S3_SD/TIM3_CH2/SPI1_MOSI, 58 PB6/I2C1_SCL/TIM4_CH1/USART1_TX, 59 PB7/I2C1_SDA/TIM4_CH2/USART1_RX, 60 BOOT0, 61 PB8/TIM4_CH3/SDIO_D4/I2C1_SCL/CAN_RX, 62 PB9/TIM4_CH4/SDIO_D5/I2C1_SDA/CAN_TX, 63 VSS, 64 VDD

## STM32F103RDT6
designator IC?
IC MCU 32BIT 384KB FLASH 64LQFP; Manufacturer: STMicroelectronics; Core Processor: ARM Cortex-M3; Core Size: 32-Bit; Speed: 72MHz; Connectivity: CAN, IC, IrDA, LIN, SPI, UART/USART, USB; Peripherals: DMA, Motor Control PWM, PDR, POR, PVD, PWM, Temp Sensor, WDT; Number Of IO: 51; Program Memory Size: 384KB (384K x 8); Ram Size: 64K x 8; Voltage: 2 V ~ 3.6 V; Data Converters: A/D 16x12b; D/A 2x12b; Oscillator Type: Internal; Part Number: STM32F103RDT6; PartId: 21154; Supplier 1: Digi-Key; Supplier Part Number 1: 497-11528-ND; ComponentLink1Description: Datasheet; ComponentLink1URL: http://www.st.com/content/ccc/resource/technical/document/datasheet/59/f6/fa/84/20/4e/4c/59/CD00191185.pdf/files/CD00191185.pdf/jcr:content/translations/en.CD00191185.pdf; ComponentLink2Description: Digi-Key Listing; ComponentLink2URL: https://www.digikey.com/product-detail/en/stmicroelectronics/STM32F103RDT6/497-11528-ND/2035363; Price: 9.02; Device Package: 64-LQFP; Series: STM32 F1; Program Memory Type: FLASH
footprint ST LQFP-64 10x10mm
pins: 1 VBAT, 2 PC13/TAMPER-RTC, 3 PC14/OSC32_IN, 4 PC15/OSC32_OUT, 5 PD0/OSC_IN/CAN_RX, 6 PD1/OSC_OUT/CAN_TX, 7 ~{RST} "NRST", 8 PC0/ADC123_IN10, 9 PC1/ADC123_IN11, 10 PC2/ADC123_IN12, 11 PC3/ADC123_IN13, 12 VSSA, 13 VDDA, 14 PA0/WKUP/USART2_CTS/ADC123_IN0/TIM5_CH1, 15 PA1/USART2_RTS/ADC123_IN1/TIM5_CH2/TIM2_CH2, 16 PA2/USART2_TX/TIM5_CH3/ADC123_IN2/TIM2_CH3, 17 PA3/USART2_RX/TIM5_CH4/ADC123_IN3/TIM2_CH4, 18 VSS, 19 VDD, 20 PA4/SPI1_NSS/USART2_CK/DAC_OUT1/ADC12_IN4, 21 PA5/SPI1_SCK/DAC_OUT2/ADC12_IN5, 22 PA6/SPI1_MISO/TIM8_BKIN/ADC12_IN6/TIM3_CH1/TIM1_BKIN, 23 PA7/SPI1_MOSI/TIM8_CH1N/ADC12_IN7/TIM3_CH2/TIM1_CH1N, 24 PC4/ADC12_IN14, 25 PC5/ADC12_IN15, 26 PB0/ADC12_IN8/TIM3_CH3/TIM8_CH2N/TIM1_CH2N, 27 PB1/ADC12_IN9/TIM3_CH4/TIM8_CH3N/TIM1_CH3N, 28 PB2/BOOT1, 29 PB10/I2C2_SCL/USART3_TX/TIM2_CH3, 30 PB11/I2C2_SDA/USART3_RX/TIM2_CH4, 31 VSS, 32 VDD, 33 PB12/SPI2_NSS/I2S2_WS/I2C2_SMBA/USART3_CK/TIM1_BKIN, 34 PB13/SPI2_SCK/I2S2_CK/USART3_CTS/TIM1_CH1N, 35 PB14/SPI2_MISO/TIM1_CH2N/USART3_RTS, 36 PB15/SPI2_MOSI/I2S2_SD/TIM1_CH3N, 37 PC6/I2S2_MCK/TIM8_CH1/SDIO_D6/TIM3_CH1, 38 PC7/I2S3_MCK/TIM8_CH2/SDIO_D7/TIM3_CH2, 39 PC8/TIM8_CH3/SDIO_D0/TIM3_CH3, 40 PC9/TIM8_CH4/SDIO_D1/TIM3_CH4, 41 PA8/USART1_CK/TIM1_CH1/MCO, 42 PA9/USART1_TX/TIM1_CH2, 43 PA10/USART1_RX/TIM1_CH3, 44 PA11/USART1_CTS/USBDM/CAN_RX/TIM1_CH4, 45 PA12/USART1_RTS/USBDP/CAN_TX/TIM1_ETR, 46 PA13/JTMS-SWDIO, 47 VSS, 48 VDD, 49 PA14/JTCK-SWCLK, 50 PA15/JTDI/SPI3_NSS/I2S3_WS/TIM2_CH1_ETR/SPI1_NSS, 51 PC10/UART4_TX/SDIO_D2/USART3_TX, 52 PC11/UART4_RX/SDIO_D3/USART3_RX, 53 PC12/UART5_TX/SDIO_CK/USART3_CK, 54 PD2/TIM3_ETR/UART5_RX/SDIO_CMD, 55 PB3/JTDO/SPI3_SCK/I2S3_CK/TRACESWO/TIM2_CH2/SPI1_SCK, 56 PB4/NJTRST/SPI3_MISO/TIM3_CH1/SPI1_MISO, 57 PB5/I2C1_SMBA/SPI3_MOSI/I2S3_SD/TIM3_CH2/SPI1_MOSI, 58 PB6/I2C1_SCL/TIM4_CH1/USART1_TX, 59 PB7/I2C1_SDA/TIM4_CH2/USART1_RX, 60 BOOT0, 61 PB8/TIM4_CH3/SDIO_D4/I2C1_SCL/CAN_RX, 62 PB9/TIM4_CH4/SDIO_D5/I2C1_SDA/CAN_TX, 63 VSS, 64 VDD

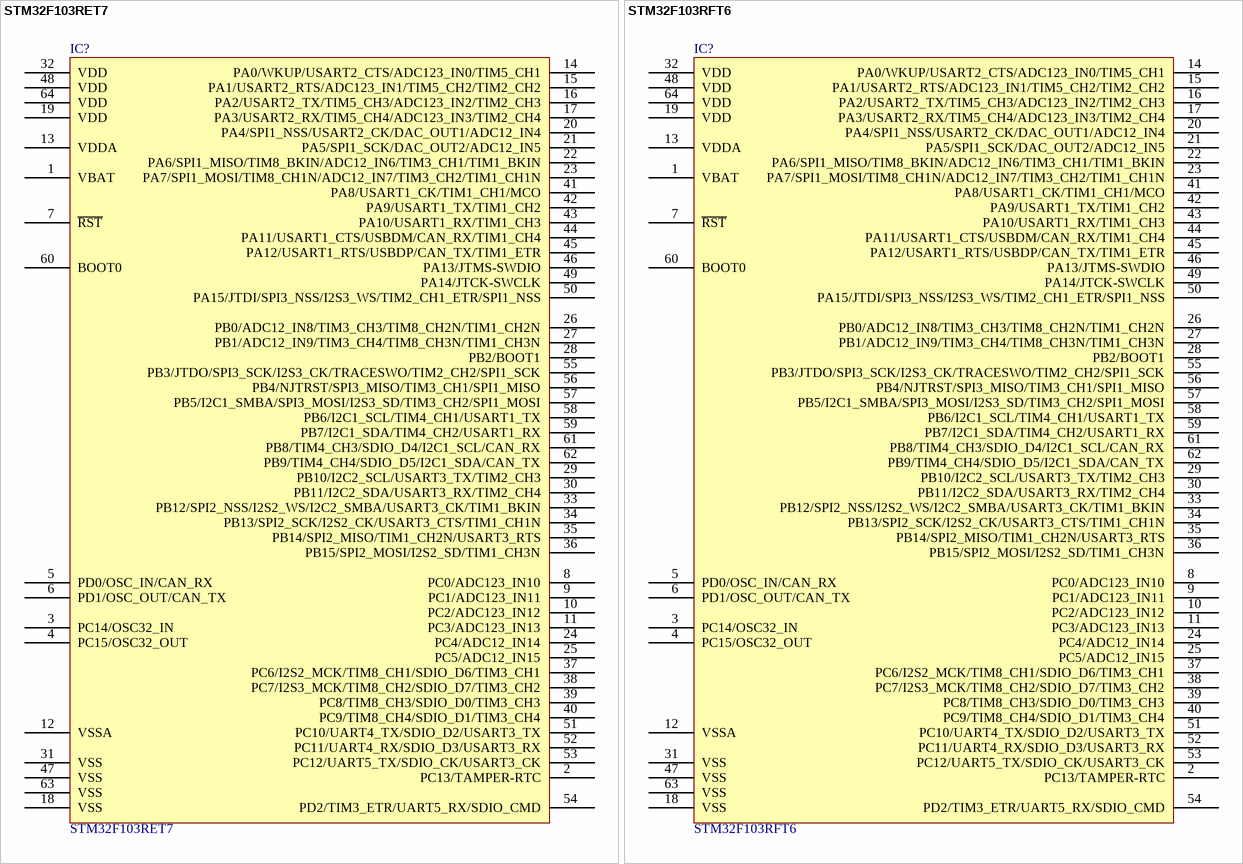
[diagram p32: symbols STM32F103RET7 to STM32F103RFT6]

## STM32F103RET7
designator IC?
IC MCU 32BIT 512KB FLASH 64LQFP; Manufacturer: STMicroelectronics; Core Processor: ARM Cortex-M3; Core Size: 32-Bit; Speed: 72MHz; Connectivity: CAN, IC, IrDA, LIN, SPI, UART/USART, USB; Peripherals: DMA, Motor Control PWM, PDR, POR, PVD, PWM, Temp Sensor, WDT; Number Of IO: 51; Program Memory Size: 512KB (512K x 8); Ram Size: 64K x 8; Voltage: 2 V ~ 3.6 V; Data Converters: A/D 16x12b; D/A 2x12b; Oscillator Type: Internal; Part Number: STM32F103RET7; PartId: 21155; Supplier 1: Digi-Key; Supplier Part Number 1: 497-11529-ND; ComponentLink1Description: Datasheet; ComponentLink1URL: http://www.st.com/content/ccc/resource/technical/document/datasheet/59/f6/fa/84/20/4e/4c/59/CD00191185.pdf/files/CD00191185.pdf/jcr:content/translations/en.CD00191185.pdf; ComponentLink2Description: Digi-Key Listing; ComponentLink2URL: https://www.digikey.com/product-detail/en/stmicroelectronics/STM32F103RET7/497-11529-ND/2035365; Price: 11; Device Package: 64-LQFP; Series: STM32 F1; Program Memory Type: FLASH
footprint ST LQFP-64 10x10mm
pins: 1 VBAT, 2 PC13/TAMPER-RTC, 3 PC14/OSC32_IN, 4 PC15/OSC32_OUT, 5 PD0/OSC_IN/CAN_RX, 6 PD1/OSC_OUT/CAN_TX, 7 ~{RST} "NRST", 8 PC0/ADC123_IN10, 9 PC1/ADC123_IN11, 10 PC2/ADC123_IN12, 11 PC3/ADC123_IN13, 12 VSSA, 13 VDDA, 14 PA0/WKUP/USART2_CTS/ADC123_IN0/TIM5_CH1, 15 PA1/USART2_RTS/ADC123_IN1/TIM5_CH2/TIM2_CH2, 16 PA2/USART2_TX/TIM5_CH3/ADC123_IN2/TIM2_CH3, 17 PA3/USART2_RX/TIM5_CH4/ADC123_IN3/TIM2_CH4, 18 VSS, 19 VDD, 20 PA4/SPI1_NSS/USART2_CK/DAC_OUT1/ADC12_IN4, 21 PA5/SPI1_SCK/DAC_OUT2/ADC12_IN5, 22 PA6/SPI1_MISO/TIM8_BKIN/ADC12_IN6/TIM3_CH1/TIM1_BKIN, 23 PA7/SPI1_MOSI/TIM8_CH1N/ADC12_IN7/TIM3_CH2/TIM1_CH1N, 24 PC4/ADC12_IN14, 25 PC5/ADC12_IN15, 26 PB0/ADC12_IN8/TIM3_CH3/TIM8_CH2N/TIM1_CH2N, 27 PB1/ADC12_IN9/TIM3_CH4/TIM8_CH3N/TIM1_CH3N, 28 PB2/BOOT1, 29 PB10/I2C2_SCL/USART3_TX/TIM2_CH3, 30 PB11/I2C2_SDA/USART3_RX/TIM2_CH4, 31 VSS, 32 VDD, 33 PB12/SPI2_NSS/I2S2_WS/I2C2_SMBA/USART3_CK/TIM1_BKIN, 34 PB13/SPI2_SCK/I2S2_CK/USART3_CTS/TIM1_CH1N, 35 PB14/SPI2_MISO/TIM1_CH2N/USART3_RTS, 36 PB15/SPI2_MOSI/I2S2_SD/TIM1_CH3N, 37 PC6/I2S2_MCK/TIM8_CH1/SDIO_D6/TIM3_CH1, 38 PC7/I2S3_MCK/TIM8_CH2/SDIO_D7/TIM3_CH2, 39 PC8/TIM8_CH3/SDIO_D0/TIM3_CH3, 40 PC9/TIM8_CH4/SDIO_D1/TIM3_CH4, 41 PA8/USART1_CK/TIM1_CH1/MCO, 42 PA9/USART1_TX/TIM1_CH2, 43 PA10/USART1_RX/TIM1_CH3, 44 PA11/USART1_CTS/USBDM/CAN_RX/TIM1_CH4, 45 PA12/USART1_RTS/USBDP/CAN_TX/TIM1_ETR, 46 PA13/JTMS-SWDIO, 47 VSS, 48 VDD, 49 PA14/JTCK-SWCLK, 50 PA15/JTDI/SPI3_NSS/I2S3_WS/TIM2_CH1_ETR/SPI1_NSS, 51 PC10/UART4_TX/SDIO_D2/USART3_TX, 52 PC11/UART4_RX/SDIO_D3/USART3_RX, 53 PC12/UART5_TX/SDIO_CK/USART3_CK, 54 PD2/TIM3_ETR/UART5_RX/SDIO_CMD, 55 PB3/JTDO/SPI3_SCK/I2S3_CK/TRACESWO/TIM2_CH2/SPI1_SCK, 56 PB4/NJTRST/SPI3_MISO/TIM3_CH1/SPI1_MISO, 57 PB5/I2C1_SMBA/SPI3_MOSI/I2S3_SD/TIM3_CH2/SPI1_MOSI, 58 PB6/I2C1_SCL/TIM4_CH1/USART1_TX, 59 PB7/I2C1_SDA/TIM4_CH2/USART1_RX, 60 BOOT0, 61 PB8/TIM4_CH3/SDIO_D4/I2C1_SCL/CAN_RX, 62 PB9/TIM4_CH4/SDIO_D5/I2C1_SDA/CAN_TX, 63 VSS, 64 VDD

## STM32F103RFT6
designator IC?
IC MCU 32BIT 768KB FLASH 64LQFP; Manufacturer: STMicroelectronics; Core Processor: ARM Cortex-M3; Core Size: 32-Bit; Speed: 72MHz; Connectivity: CAN, IC, IrDA, LIN, SPI, UART/USART, USB; Peripherals: DMA, Motor Control PWM, PDR, POR, PVD, PWM, Temp Sensor, WDT; Number Of IO: 51; Program Memory Size: 768KB (768K x 8); Ram Size: 96K x 8; Voltage: 2 V ~ 3.6 V; Data Converters: A/D 16x12b, D/A 2x12b; Oscillator Type: Internal; Part Number: STM32F103RFT6; PartId: 21159; Supplier 1: Digi-Key; Supplier Part Number 1: 497-11114-ND; ComponentLink1Description: Datasheet; ComponentLink1URL: http://www.st.com/content/ccc/resource/technical/document/datasheet/01/c1/9e/ad/b3/21/4b/d3/CD00253742.pdf/files/CD00253742.pdf/jcr:content/translations/en.CD00253742.pdf; ComponentLink2Description: Digi-Key Listing; ComponentLink2URL: https://www.digikey.com/product-detail/en/stmicroelectronics/STM32F103RFT6/497-11114-ND/2618625; Price: 11; Device Package: 64-LQFP; Series: STM32 F1; Program Memory Type: FLASH
footprint ST LQFP-64 10x10mm
pins: 1 VBAT, 2 PC13/TAMPER-RTC, 3 PC14/OSC32_IN, 4 PC15/OSC32_OUT, 5 PD0/OSC_IN/CAN_RX, 6 PD1/OSC_OUT/CAN_TX, 7 ~{RST} "NRST", 8 PC0/ADC123_IN10, 9 PC1/ADC123_IN11, 10 PC2/ADC123_IN12, 11 PC3/ADC123_IN13, 12 VSSA, 13 VDDA, 14 PA0/WKUP/USART2_CTS/ADC123_IN0/TIM5_CH1, 15 PA1/USART2_RTS/ADC123_IN1/TIM5_CH2/TIM2_CH2, 16 PA2/USART2_TX/TIM5_CH3/ADC123_IN2/TIM2_CH3, 17 PA3/USART2_RX/TIM5_CH4/ADC123_IN3/TIM2_CH4, 18 VSS, 19 VDD, 20 PA4/SPI1_NSS/USART2_CK/DAC_OUT1/ADC12_IN4, 21 PA5/SPI1_SCK/DAC_OUT2/ADC12_IN5, 22 PA6/SPI1_MISO/TIM8_BKIN/ADC12_IN6/TIM3_CH1/TIM1_BKIN, 23 PA7/SPI1_MOSI/TIM8_CH1N/ADC12_IN7/TIM3_CH2/TIM1_CH1N, 24 PC4/ADC12_IN14, 25 PC5/ADC12_IN15, 26 PB0/ADC12_IN8/TIM3_CH3/TIM8_CH2N/TIM1_CH2N, 27 PB1/ADC12_IN9/TIM3_CH4/TIM8_CH3N/TIM1_CH3N, 28 PB2/BOOT1, 29 PB10/I2C2_SCL/USART3_TX/TIM2_CH3, 30 PB11/I2C2_SDA/USART3_RX/TIM2_CH4, 31 VSS, 32 VDD, 33 PB12/SPI2_NSS/I2S2_WS/I2C2_SMBA/USART3_CK/TIM1_BKIN, 34 PB13/SPI2_SCK/I2S2_CK/USART3_CTS/TIM1_CH1N, 35 PB14/SPI2_MISO/TIM1_CH2N/USART3_RTS, 36 PB15/SPI2_MOSI/I2S2_SD/TIM1_CH3N, 37 PC6/I2S2_MCK/TIM8_CH1/SDIO_D6/TIM3_CH1, 38 PC7/I2S3_MCK/TIM8_CH2/SDIO_D7/TIM3_CH2, 39 PC8/TIM8_CH3/SDIO_D0/TIM3_CH3, 40 PC9/TIM8_CH4/SDIO_D1/TIM3_CH4, 41 PA8/USART1_CK/TIM1_CH1/MCO, 42 PA9/USART1_TX/TIM1_CH2, 43 PA10/USART1_RX/TIM1_CH3, 44 PA11/USART1_CTS/USBDM/CAN_RX/TIM1_CH4, 45 PA12/USART1_RTS/USBDP/CAN_TX/TIM1_ETR, 46 PA13/JTMS-SWDIO, 47 VSS, 48 VDD, 49 PA14/JTCK-SWCLK, 50 PA15/JTDI/SPI3_NSS/I2S3_WS/TIM2_CH1_ETR/SPI1_NSS, 51 PC10/UART4_TX/SDIO_D2/USART3_TX, 52 PC11/UART4_RX/SDIO_D3/USART3_RX, 53 PC12/UART5_TX/SDIO_CK/USART3_CK, 54 PD2/TIM3_ETR/UART5_RX/SDIO_CMD, 55 PB3/JTDO/SPI3_SCK/I2S3_CK/TRACESWO/TIM2_CH2/SPI1_SCK, 56 PB4/NJTRST/SPI3_MISO/TIM3_CH1/SPI1_MISO, 57 PB5/I2C1_SMBA/SPI3_MOSI/I2S3_SD/TIM3_CH2/SPI1_MOSI, 58 PB6/I2C1_SCL/TIM4_CH1/USART1_TX, 59 PB7/I2C1_SDA/TIM4_CH2/USART1_RX, 60 BOOT0, 61 PB8/TIM4_CH3/SDIO_D4/I2C1_SCL/CAN_RX, 62 PB9/TIM4_CH4/SDIO_D5/I2C1_SDA/CAN_TX, 63 VSS, 64 VDD

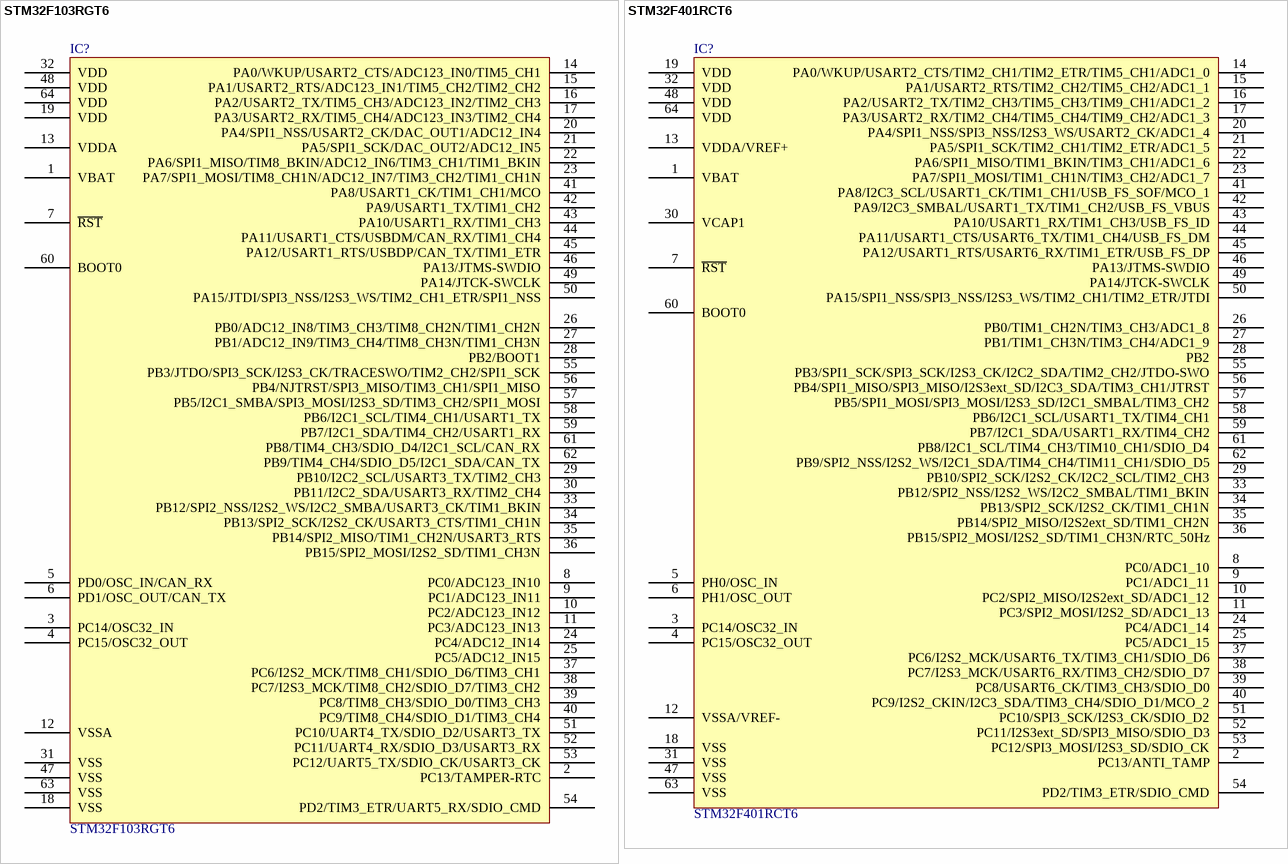
[diagram p33: symbols STM32F103RGT6 to STM32F401RCT6]

## STM32F103RGT6
designator IC?
IC MCU 32BIT 1MB FLASH 64LQFP; Manufacturer: STMicroelectronics; Core Processor: ARM Cortex-M3; Core Size: 32-Bit; Speed: 72MHz; Connectivity: CAN, IC, IrDA, LIN, SPI, UART/USART, USB; Peripherals: DMA, Motor Control PWM, PDR, POR, PVD, PWM, Temp Sensor, WDT; Number Of IO: 51; Program Memory Size: 1MB (1M x 8); Ram Size: 96K x 8; Voltage: 2 V ~ 3.6 V; Data Converters: A/D 16x12b; D/A 2x12b; Oscillator Type: Internal; Part Number: STM32F103RGT6; PartId: 21156; Supplier 1: Digi-Key; Supplier Part Number 1: 497-11118-ND; ComponentLink1Description: Datasheet; ComponentLink1URL: http://www.st.com/content/ccc/resource/technical/document/datasheet/01/c1/9e/ad/b3/21/4b/d3/CD00253742.pdf/files/CD00253742.pdf/jcr:content/translations/en.CD00253742.pdf; ComponentLink2Description: Digi-Key Listing; ComponentLink2URL: https://www.digikey.com/product-detail/en/stmicroelectronics/STM32F103RGT6/497-11118-ND/2529307; Price: 11.36; Device Package: 64-LQFP; Series: STM32 F1; Program Memory Type: FLASH
footprint ST LQFP-64 10x10mm
pins: 1 VBAT, 2 PC13/TAMPER-RTC, 3 PC14/OSC32_IN, 4 PC15/OSC32_OUT, 5 PD0/OSC_IN/CAN_RX, 6 PD1/OSC_OUT/CAN_TX, 7 ~{RST} "NRST", 8 PC0/ADC123_IN10, 9 PC1/ADC123_IN11, 10 PC2/ADC123_IN12, 11 PC3/ADC123_IN13, 12 VSSA, 13 VDDA, 14 PA0/WKUP/USART2_CTS/ADC123_IN0/TIM5_CH1, 15 PA1/USART2_RTS/ADC123_IN1/TIM5_CH2/TIM2_CH2, 16 PA2/USART2_TX/TIM5_CH3/ADC123_IN2/TIM2_CH3, 17 PA3/USART2_RX/TIM5_CH4/ADC123_IN3/TIM2_CH4, 18 VSS, 19 VDD, 20 PA4/SPI1_NSS/USART2_CK/DAC_OUT1/ADC12_IN4, 21 PA5/SPI1_SCK/DAC_OUT2/ADC12_IN5, 22 PA6/SPI1_MISO/TIM8_BKIN/ADC12_IN6/TIM3_CH1/TIM1_BKIN, 23 PA7/SPI1_MOSI/TIM8_CH1N/ADC12_IN7/TIM3_CH2/TIM1_CH1N, 24 PC4/ADC12_IN14, 25 PC5/ADC12_IN15, 26 PB0/ADC12_IN8/TIM3_CH3/TIM8_CH2N/TIM1_CH2N, 27 PB1/ADC12_IN9/TIM3_CH4/TIM8_CH3N/TIM1_CH3N, 28 PB2/BOOT1, 29 PB10/I2C2_SCL/USART3_TX/TIM2_CH3, 30 PB11/I2C2_SDA/USART3_RX/TIM2_CH4, 31 VSS, 32 VDD, 33 PB12/SPI2_NSS/I2S2_WS/I2C2_SMBA/USART3_CK/TIM1_BKIN, 34 PB13/SPI2_SCK/I2S2_CK/USART3_CTS/TIM1_CH1N, 35 PB14/SPI2_MISO/TIM1_CH2N/USART3_RTS, 36 PB15/SPI2_MOSI/I2S2_SD/TIM1_CH3N, 37 PC6/I2S2_MCK/TIM8_CH1/SDIO_D6/TIM3_CH1, 38 PC7/I2S3_MCK/TIM8_CH2/SDIO_D7/TIM3_CH2, 39 PC8/TIM8_CH3/SDIO_D0/TIM3_CH3, 40 PC9/TIM8_CH4/SDIO_D1/TIM3_CH4, 41 PA8/USART1_CK/TIM1_CH1/MCO, 42 PA9/USART1_TX/TIM1_CH2, 43 PA10/USART1_RX/TIM1_CH3, 44 PA11/USART1_CTS/USBDM/CAN_RX/TIM1_CH4, 45 PA12/USART1_RTS/USBDP/CAN_TX/TIM1_ETR, 46 PA13/JTMS-SWDIO, 47 VSS, 48 VDD, 49 PA14/JTCK-SWCLK, 50 PA15/JTDI/SPI3_NSS/I2S3_WS/TIM2_CH1_ETR/SPI1_NSS, 51 PC10/UART4_TX/SDIO_D2/USART3_TX, 52 PC11/UART4_RX/SDIO_D3/USART3_RX, 53 PC12/UART5_TX/SDIO_CK/USART3_CK, 54 PD2/TIM3_ETR/UART5_RX/SDIO_CMD, 55 PB3/JTDO/SPI3_SCK/I2S3_CK/TRACESWO/TIM2_CH2/SPI1_SCK, 56 PB4/NJTRST/SPI3_MISO/TIM3_CH1/SPI1_MISO, 57 PB5/I2C1_SMBA/SPI3_MOSI/I2S3_SD/TIM3_CH2/SPI1_MOSI, 58 PB6/I2C1_SCL/TIM4_CH1/USART1_TX, 59 PB7/I2C1_SDA/TIM4_CH2/USART1_RX, 60 BOOT0, 61 PB8/TIM4_CH3/SDIO_D4/I2C1_SCL/CAN_RX, 62 PB9/TIM4_CH4/SDIO_D5/I2C1_SDA/CAN_TX, 63 VSS, 64 VDD

## STM32F401RCT6
designator IC?
IC MCU 32BIT 256KB FLASH 64LQFP; Manufacturer: STMicroelectronics; Core Processor: ARM Cortex-M4; Core Size: 32-Bit; Speed: 84MHz; Connectivity: IC, IrDA, LIN, SDIO, SPI, UART/USART, USB OTG; Peripherals: Brown-out Detect/Reset, DMA, IS, POR, PWM, WDT; Number Of IO: 50; Program Memory Size: 256KB (256K x 8); Ram Size: 64K x 8; Voltage: 1.7 V ~ 3.6 V; Data Converters: A/D 16x12b; Oscillator Type: Internal; Part Number: STM32F401RCT6; PartId: 21151; Supplier 1: Digi-Key; Supplier Part Number 1: 497-14047-ND; ComponentLink1Description: Datasheet; ComponentLink1URL: http://www.st.com/web/en/resource/technical/document/datasheet/DM00086815.pdf; ComponentLink2Description: Digi-Key Listing; ComponentLink2URL: http://www.digikey.com/product-detail/en/stmicroelectronics/STM32F401RCT6/497-14047-ND/4494300; Price: 6.09; Type: Embedded - Microcontrollers; Device Package: 64-LQFP; Series: STM32 F4; Program Memory Type: FLASH; EEPROM Size: -
footprint ST LQFP-64 10x10mm
pins: 1 VBAT, 2 PC13/ANTI_TAMP, 3 PC14/OSC32_IN "PC14-OSC32_IN/OSC32_IN", 4 PC15/OSC32_OUT "PC15-OSC32_OUT/OSC32_OUT", 5 PH0/OSC_IN "PH0-OSC_IN/OSC_IN", 6 PH1/OSC_OUT "PH1-OSC_OUT/OSC_OUT", 7 ~{RST} "NRST", 8 PC0/ADC1_10, 9 PC1/ADC1_11, 10 PC2/SPI2_MISO/I2S2ext_SD/ADC1_12, 11 PC3/SPI2_MOSI/I2S2_SD/ADC1_13, 12 VSSA/VREF-, 13 VDDA/VREF+, 14 PA0/WKUP/USART2_CTS/TIM2_CH1/TIM2_ETR/TIM5_CH1/ADC1_0, 15 PA1/USART2_RTS/TIM2_CH2/TIM5_CH2/ADC1_1, 16 PA2/USART2_TX/TIM2_CH3/TIM5_CH3/TIM9_CH1/ADC1_2, 17 PA3/USART2_RX/TIM2_CH4/TIM5_CH4/TIM9_CH2/ADC1_3, 18 VSS, 19 VDD, 20 PA4/SPI1_NSS/SPI3_NSS/I2S3_WS/USART2_CK/ADC1_4, 21 PA5/SPI1_SCK/TIM2_CH1/TIM2_ETR/ADC1_5, 22 PA6/SPI1_MISO/TIM1_BKIN/TIM3_CH1/ADC1_6, 23 PA7/SPI1_MOSI/TIM1_CH1N/TIM3_CH2/ADC1_7, 24 PC4/ADC1_14, 25 PC5/ADC1_15, 26 PB0/TIM1_CH2N/TIM3_CH3/ADC1_8, 27 PB1/TIM1_CH3N/TIM3_CH4/ADC1_9, 28 PB2, 29 PB10/SPI2_SCK/I2S2_CK/I2C2_SCL/TIM2_CH3, 30 VCAP1, 31 VSS, 32 VDD, 33 PB12/SPI2_NSS/I2S2_WS/I2C2_SMBAL/TIM1_BKIN, 34 PB13/SPI2_SCK/I2S2_CK/TIM1_CH1N, 35 PB14/SPI2_MISO/I2S2ext_SD/TIM1_CH2N, 36 PB15/SPI2_MOSI/I2S2_SD/TIM1_CH3N/RTC_50Hz, 37 PC6/I2S2_MCK/USART6_TX/TIM3_CH1/SDIO_D6, 38 PC7/I2S3_MCK/USART6_RX/TIM3_CH2/SDIO_D7, 39 PC8/USART6_CK/TIM3_CH3/SDIO_D0, 40 PC9/I2S2_CKIN/I2C3_SDA/TIM3_CH4/SDIO_D1/MCO_2, 41 PA8/I2C3_SCL/USART1_CK/TIM1_CH1/USB_FS_SOF/MCO_1, 42 PA9/I2C3_SMBAL/USART1_TX/TIM1_CH2/USB_FS_VBUS, 43 PA10/USART1_RX/TIM1_CH3/USB_FS_ID, 44 PA11/USART1_CTS/USART6_TX/TIM1_CH4/USB_FS_DM, 45 PA12/USART1_RTS/USART6_RX/TIM1_ETR/USB_FS_DP, 46 PA13/JTMS-SWDIO, 47 VSS, 48 VDD, 49 PA14/JTCK-SWCLK, 50 PA15/SPI1_NSS/SPI3_NSS/I2S3_WS/TIM2_CH1/TIM2_ETR/JTDI, 51 PC10/SPI3_SCK/I2S3_CK/SDIO_D2, 52 PC11/I2S3ext_SD/SPI3_MISO/SDIO_D3, 53 PC12/SPI3_MOSI/I2S3_SD/SDIO_CK, 54 PD2/TIM3_ETR/SDIO_CMD, 55 PB3/SPI1_SCK/SPI3_SCK/I2S3_CK/I2C2_SDA/TIM2_CH2/JTDO-SWO, 56 PB4/SPI1_MISO/SPI3_MISO/I2S3ext_SD/I2C3_SDA/TIM3_CH1/JTRST, 57 PB5/SPI1_MOSI/SPI3_MOSI/I2S3_SD/I2C1_SMBAL/TIM3_CH2, 58 PB6/I2C1_SCL/USART1_TX/TIM4_CH1, 59 PB7/I2C1_SDA/USART1_RX/TIM4_CH2, 60 BOOT0, 61 PB8/I2C1_SCL/TIM4_CH3/TIM10_CH1/SDIO_D4, 62 PB9/SPI2_NSS/I2S2_WS/I2C1_SDA/TIM4_CH4/TIM11_CH1/SDIO_D5, 63 VSS, 64 VDD

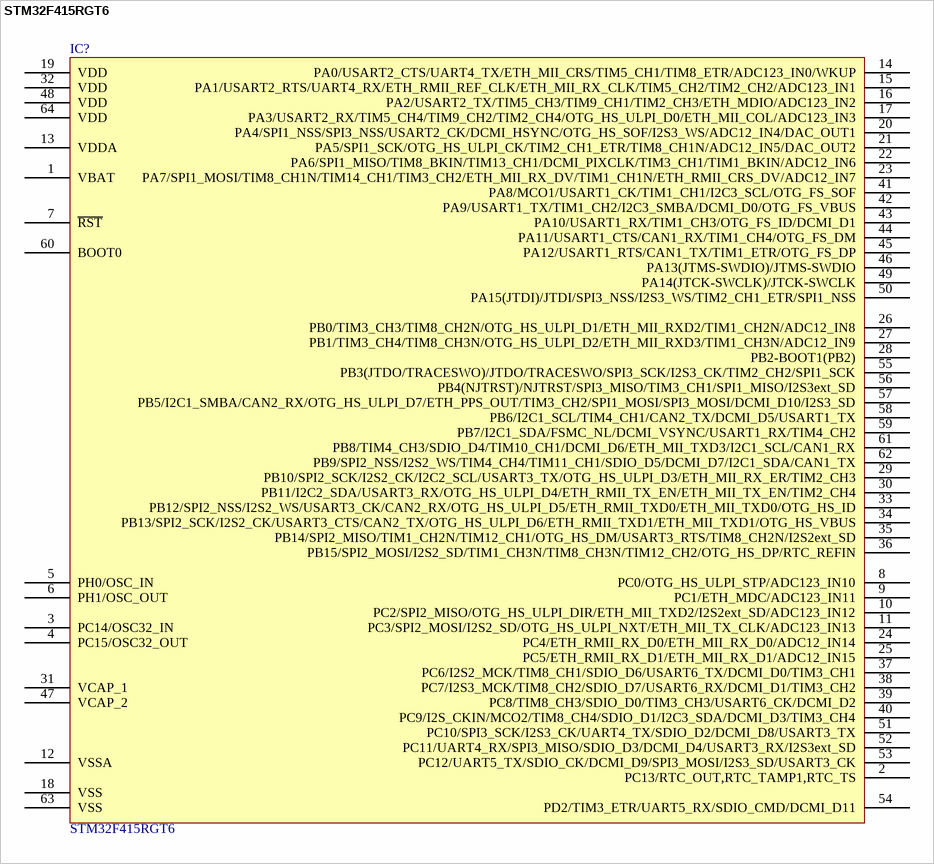
[diagram p34: symbol STM32F415RGT6]

## STM32F415RGT6
designator IC?
IC MCU 32BIT 1MB FLASH 64LQFP; Manufacturer: STMicroelectronics; Core Processor: ARM Cortex-M4; Core Size: 32-Bit; Speed: 168MHz; Connectivity: CAN, IC, IrDA, LIN, SPI, UART/USART, USB OTG; Peripherals: Brown-out Detect/Reset, DMA, IS, LCD, POR, PWM, WDT; Number Of IO: 51; Program Memory Size: 1MB (1M x 8); Ram Size: 192K x 8; Voltage: 1.8 V ~ 3.6 V; Data Converters: A/D 16x12b, D/A 2x12b; Oscillator Type: Internal; Part Number: STM32F415RGT6; PartId: 21152; Supplier 1: Digi-Key; Supplier Part Number 1: 497-11907-ND; ComponentLink1Description: Datasheet; ComponentLink1URL: http://www.st.com/web/en/resource/technical/document/datasheet/DM00035129.pdf; ComponentLink2Description: Digi-Key Listing; ComponentLink2URL: http://www.digikey.com/product-detail/en/stmicroelectronics/STM32F415RGT6/497-11907-ND/2757675; Price: 11.16; Type: Embedded - Microcontrollers; Device Package: 64-LQFP; Series: STM32 F4; Program Memory Type: FLASH; EEPROM Size: -
footprint ST LQFP-64 10x10mm
pins: 1 VBAT, 2 PC13/RTC_OUT,RTC_TAMP1,RTC_TS, 3 PC14/OSC32_IN "PC14-OSC32_IN(PC14)/EVENTOUT/OSC32_IN", 4 PC15/OSC32_OUT "PC15-OSC32_OUT(PC15)/EVENTOUT/OSC32_OUT", 5 PH0/OSC_IN "PH0-OSC_IN(PH0)/EVENTOUT/OSC_IN", 6 PH1/OSC_OUT "PH1-OSC_OUT(PH1)/EVENTOUT/OSC_OUT", 7 ~{RST} "NRST", 8 PC0/OTG_HS_ULPI_STP/ADC123_IN10, 9 PC1/ETH_MDC/ADC123_IN11, 10 PC2/SPI2_MISO/OTG_HS_ULPI_DIR/ETH_MII_TXD2/I2S2ext_SD/ADC123_IN12, 11 PC3/SPI2_MOSI/I2S2_SD/OTG_HS_ULPI_NXT/ETH_MII_TX_CLK/ADC123_IN13, 12 VSSA, 13 VDDA, 14 PA0/USART2_CTS/UART4_TX/ETH_MII_CRS/TIM5_CH1/TIM8_ETR/ADC123_IN0/WKUP, 15 PA1/USART2_RTS/UART4_RX/ETH_RMII_REF_CLK/ETH_MII_RX_CLK/TIM5_CH2/TIM2_CH2/ADC123_IN1, 16 PA2/USART2_TX/TIM5_CH3/TIM9_CH1/TIM2_CH3/ETH_MDIO/ADC123_IN2, 17 PA3/USART2_RX/TIM5_CH4/TIM9_CH2/TIM2_CH4/OTG_HS_ULPI_D0/ETH_MII_COL/ADC123_IN3, 18 VSS, 19 VDD, 20 PA4/SPI1_NSS/SPI3_NSS/USART2_CK/DCMI_HSYNC/OTG_HS_SOF/I2S3_WS/ADC12_IN4/DAC_OUT1, 21 PA5/SPI1_SCK/OTG_HS_ULPI_CK/TIM2_CH1_ETR/TIM8_CH1N/ADC12_IN5/DAC_OUT2, 22 PA6/SPI1_MISO/TIM8_BKIN/TIM13_CH1/DCMI_PIXCLK/TIM3_CH1/TIM1_BKIN/ADC12_IN6, 23 PA7/SPI1_MOSI/TIM8_CH1N/TIM14_CH1/TIM3_CH2/ETH_MII_RX_DV/TIM1_CH1N/ETH_RMII_CRS_DV/ADC12_IN7, 24 PC4/ETH_RMII_RX_D0/ETH_MII_RX_D0/ADC12_IN14, 25 PC5/ETH_RMII_RX_D1/ETH_MII_RX_D1/ADC12_IN15, 26 PB0/TIM3_CH3/TIM8_CH2N/OTG_HS_ULPI_D1/ETH_MII_RXD2/TIM1_CH2N/ADC12_IN8, 27 PB1/TIM3_CH4/TIM8_CH3N/OTG_HS_ULPI_D2/ETH_MII_RXD3/TIM1_CH3N/ADC12_IN9, 28 PB2-BOOT1(PB2), 29 PB10/SPI2_SCK/I2S2_CK/I2C2_SCL/USART3_TX/OTG_HS_ULPI_D3/ETH_MII_RX_ER/TIM2_CH3, 30 PB11/I2C2_SDA/USART3_RX/OTG_HS_ULPI_D4/ETH_RMII_TX_EN/ETH_MII_TX_EN/TIM2_CH4, 31 VCAP_1, 32 VDD, 33 PB12/SPI2_NSS/I2S2_WS/USART3_CK/CAN2_RX/OTG_HS_ULPI_D5/ETH_RMII_TXD0/ETH_MII_TXD0/OTG_HS_ID "PB12/SPI2_NSS/I2S2_WS/I2C2_SMBA/USART3_CK/CAN2_RX/OTG_HS_ULPI_D5/ETH_RMII_TXD0/ETH_MII_TXD0/OTG_HS_ID", 34 PB13/SPI2_SCK/I2S2_CK/USART3_CTS/CAN2_TX/OTG_HS_ULPI_D6/ETH_RMII_TXD1/ETH_MII_TXD1/OTG_HS_VBUS "PB13/SPI2_SCK/I2S2_CK/USART3_CTS/TIM1_CH1N/CAN2_TX/OTG_HS_ULPI_D6/ETH_RMII_TXD1/ETH_MII_TXD1/OTG_HS_VBUS", 35 PB14/SPI2_MISO/TIM1_CH2N/TIM12_CH1/OTG_HS_DM/USART3_RTS/TIM8_CH2N/I2S2ext_SD, 36 PB15/SPI2_MOSI/I2S2_SD/TIM1_CH3N/TIM8_CH3N/TIM12_CH2/OTG_HS_DP/RTC_REFIN, 37 PC6/I2S2_MCK/TIM8_CH1/SDIO_D6/USART6_TX/DCMI_D0/TIM3_CH1, 38 PC7/I2S3_MCK/TIM8_CH2/SDIO_D7/USART6_RX/DCMI_D1/TIM3_CH2, 39 PC8/TIM8_CH3/SDIO_D0/TIM3_CH3/USART6_CK/DCMI_D2, 40 PC9/I2S_CKIN/MCO2/TIM8_CH4/SDIO_D1/I2C3_SDA/DCMI_D3/TIM3_CH4, 41 PA8/MCO1/USART1_CK/TIM1_CH1/I2C3_SCL/OTG_FS_SOF, 42 PA9/USART1_TX/TIM1_CH2/I2C3_SMBA/DCMI_D0/OTG_FS_VBUS, 43 PA10/USART1_RX/TIM1_CH3/OTG_FS_ID/DCMI_D1, 44 PA11/USART1_CTS/CAN1_RX/TIM1_CH4/OTG_FS_DM, 45 PA12/USART1_RTS/CAN1_TX/TIM1_ETR/OTG_FS_DP, 46 PA13(JTMS-SWDIO)/JTMS-SWDIO, 47 VCAP_2, 48 VDD, 49 PA14(JTCK-SWCLK)/JTCK-SWCLK, 50 PA15(JTDI)/JTDI/SPI3_NSS/I2S3_WS/TIM2_CH1_ETR/SPI1_NSS, 51 PC10/SPI3_SCK/I2S3_CK/UART4_TX/SDIO_D2/DCMI_D8/USART3_TX, 52 PC11/UART4_RX/SPI3_MISO/SDIO_D3/DCMI_D4/USART3_RX/I2S3ext_SD, 53 PC12/UART5_TX/SDIO_CK/DCMI_D9/SPI3_MOSI/I2S3_SD/USART3_CK, 54 PD2/TIM3_ETR/UART5_RX/SDIO_CMD/DCMI_D11, 55 PB3(JTDO/TRACESWO)/JTDO/TRACESWO/SPI3_SCK/I2S3_CK/TIM2_CH2/SPI1_SCK, 56 PB4(NJTRST)/NJTRST/SPI3_MISO/TIM3_CH1/SPI1_MISO/I2S3ext_SD, 57 PB5/I2C1_SMBA/CAN2_RX/OTG_HS_ULPI_D7/ETH_PPS_OUT/TIM3_CH2/SPI1_MOSI/SPI3_MOSI/DCMI_D10/I2S3_SD, 58 PB6/I2C1_SCL/TIM4_CH1/CAN2_TX/DCMI_D5/USART1_TX, 59 PB7/I2C1_SDA/FSMC_NL/DCMI_VSYNC/USART1_RX/TIM4_CH2, 60 BOOT0 "BOOT0/VPP", 61 PB8/TIM4_CH3/SDIO_D4/TIM10_CH1/DCMI_D6/ETH_MII_TXD3/I2C1_SCL/CAN1_RX, 62 PB9/SPI2_NSS/I2S2_WS/TIM4_CH4/TIM11_CH1/SDIO_D5/DCMI_D7/I2C1_SDA/CAN1_TX, 63 VSS, 64 VDD

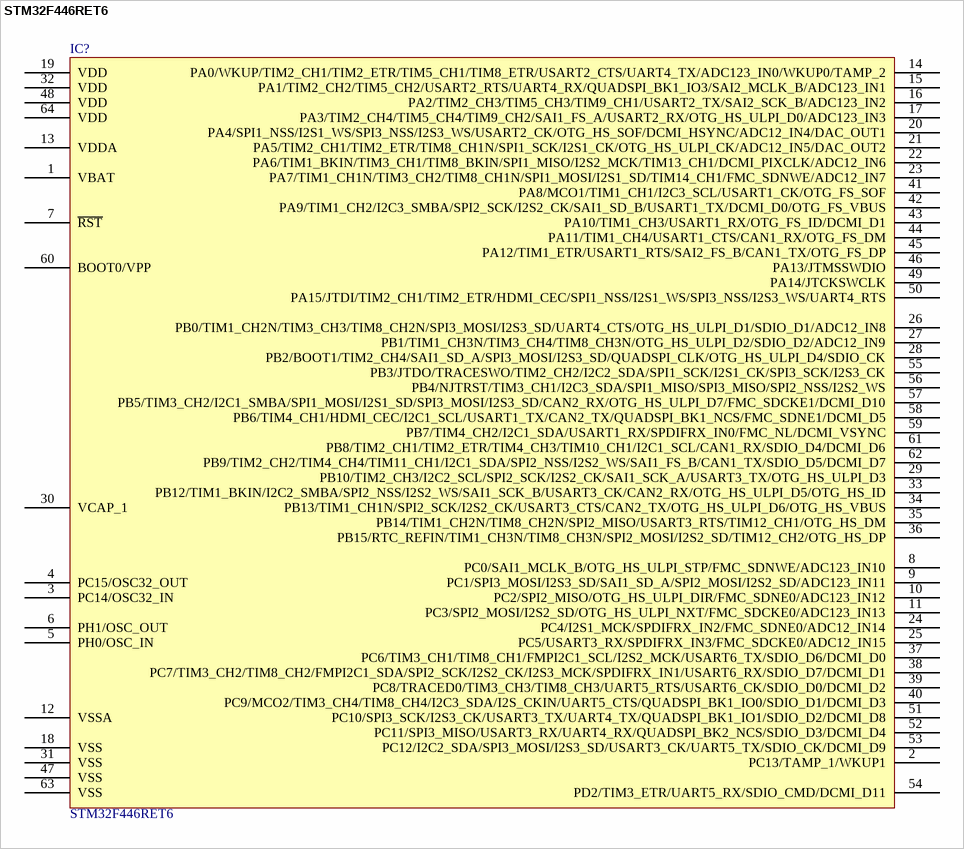
[diagram p35: symbol STM32F446RET6]